# Altium integrated library Motorola Microcontroller 8-Bit.IntLib: 909 symbols (part 22 of 31)
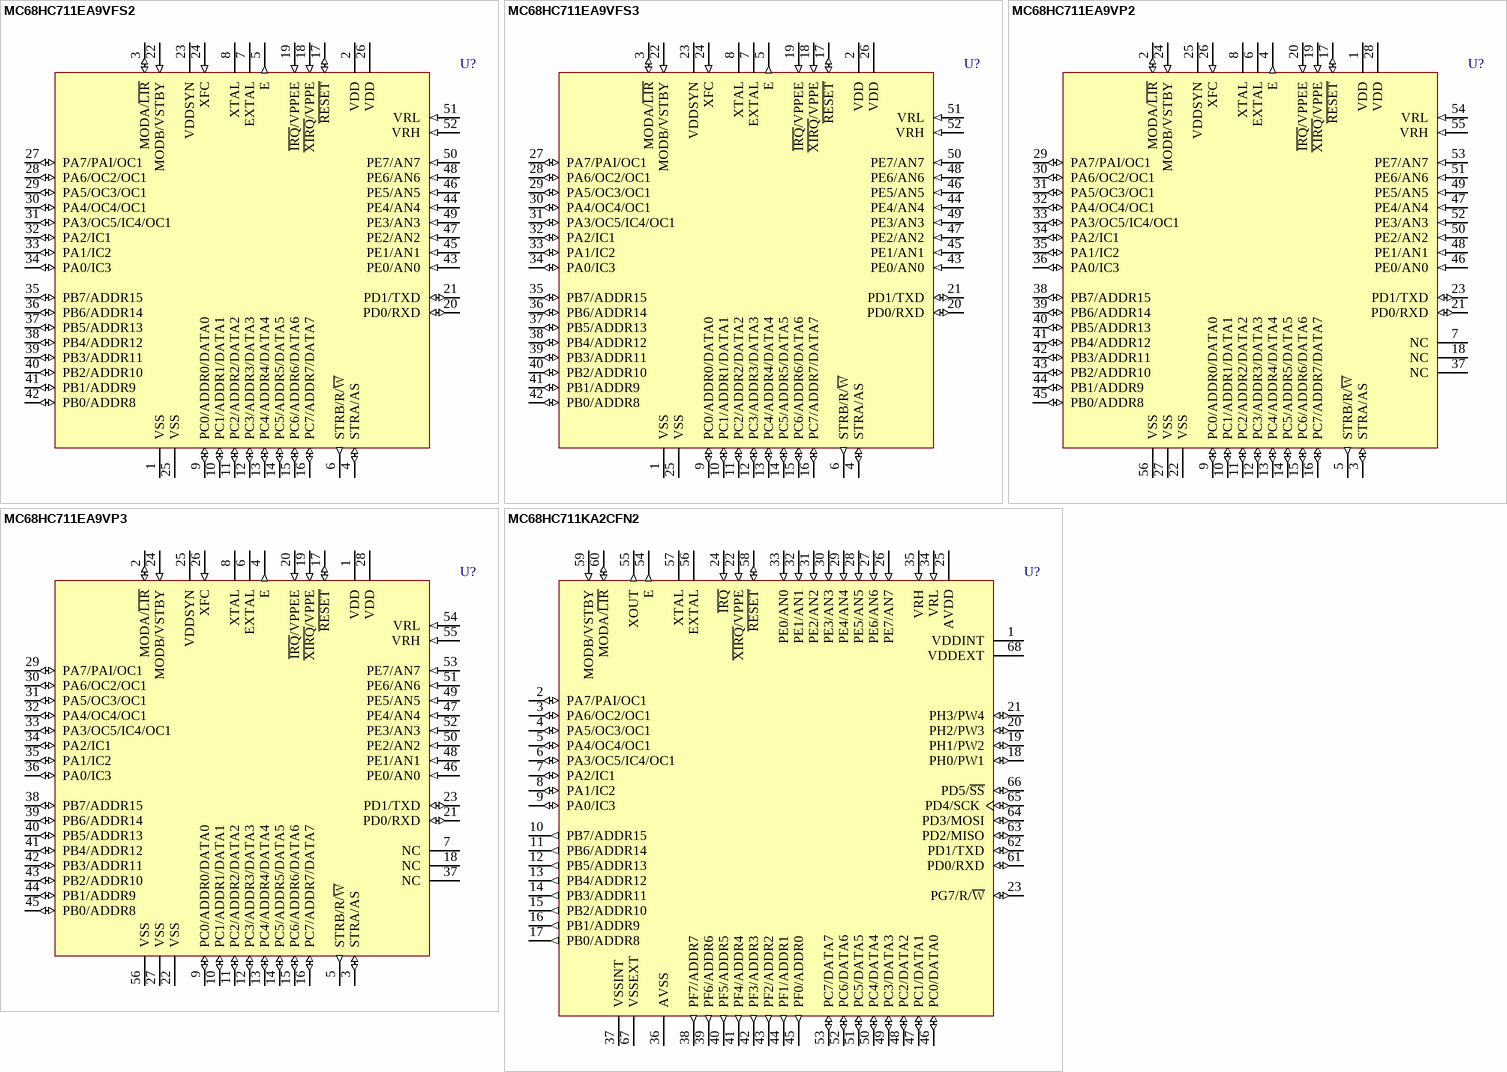
[diagram p134: symbols MC68HC711EA9VFS2 to MC68HC711KA2CFN2]

## MC68HC711EA9VP2
designator U?
8-Bit Microcontroller; Published: 17-Jan-2003; LatestRevisionDate: 06-Jun-2005; LatestRevisionNote: Stylized 3D Model Added.; DatasheetVersion: 10-Jan-1997; PackageVersion: rev4, Jul-2002; PackageReference: 859; Publisher: Altium Limited; PackageDescription: DIP; 56 Leads; Row Spacing 15.24 mm; Pitch 1.778 mm; ComponentLink1Description: Manufacturer Link; ComponentLink1URL: http://www.freescale.com/
footprint 859 (DIP; 56 Leads; Row Spacing 15.24 mm; Pitch 1.778 mm)
3D model 859-01 (DIP; 56 Leads; Row Spacing 15.24 mm; Pitch 1.778 mm)
pins: 1 VDD (power), 2 MODA/~{LIR} (io), 3 STRA/AS (io), 4 E (out), 5 STRB/R/~{W} (out), 6 EXTAL, 7 NC, 8 XTAL, 9 PC0/ADDR0/DATA0 (io), 10 PC1/ADDR1/DATA1 (io), 11 PC2/ADDR2/DATA2 (io), 12 PC3/ADDR3/DATA3 (io), 13 PC4/ADDR4/DATA4 (io), 14 PC5/ADDR5/DATA5 (io), 15 PC6/ADDR6/DATA6 (io), 16 PC7/ADDR7/DATA7 (io), 17 ~{RESET} (io), 18 NC, 19 ~{XIRQ}/VPPE (in), 20 ~{IRQ}/VPPEE (in), 21 PD0/RXD (io), 22 VSS (power), 23 PD1/TXD (io), 24 MODB/VSTBY (in), 25 VDDSYN (power), 26 XFC (in), 27 VSS (power), 28 VDD (power), 29 PA7/PAI/OC1 (io), 30 PA6/OC2/OC1 (io), 31 PA5/OC3/OC1 (io), 32 PA4/OC4/OC1 (io), 33 PA3/OC5/IC4/OC1 (io), 34 PA2/IC1 (io), 35 PA1/IC2 (io), 36 PA0/IC3 (io), 37 NC, 38 PB7/ADDR15 (io), 39 PB6/ADDR14 (io), 40 PB5/ADDR13 (io), 41 PB4/ADDR12 (io), 42 PB3/ADDR11 (io), 43 PB2/ADDR10 (io), 44 PB1/ADDR9 (io), 45 PB0/ADDR8 (io), 46 PE0/AN0 (in), 47 PE4/AN4 (in), 48 PE1/AN1 (in), 49 PE5/AN5 (in), 50 PE2/AN2 (in), 51 PE6/AN6 (in), 52 PE3/AN3 (in), 53 PE7/AN7 (in), 54 VRL (in), 55 VRH (in), 56 VSS (power)

## MC68HC711EA9VP3
designator U?
8-Bit Microcontroller; Published: 17-Jan-2003; LatestRevisionDate: 06-Jun-2005; LatestRevisionNote: Stylized 3D Model Added.; DatasheetVersion: 10-Jan-1997; PackageVersion: rev4, Jul-2002; PackageReference: 859; Publisher: Altium Limited; PackageDescription: DIP; 56 Leads; Row Spacing 15.24 mm; Pitch 1.778 mm; ComponentLink1Description: Manufacturer Link; ComponentLink1URL: http://www.freescale.com/
footprint 859 (DIP; 56 Leads; Row Spacing 15.24 mm; Pitch 1.778 mm)
3D model 859-01 (DIP; 56 Leads; Row Spacing 15.24 mm; Pitch 1.778 mm)
pins: 1 VDD (power), 2 MODA/~{LIR} (io), 3 STRA/AS (io), 4 E (out), 5 STRB/R/~{W} (out), 6 EXTAL, 7 NC, 8 XTAL, 9 PC0/ADDR0/DATA0 (io), 10 PC1/ADDR1/DATA1 (io), 11 PC2/ADDR2/DATA2 (io), 12 PC3/ADDR3/DATA3 (io), 13 PC4/ADDR4/DATA4 (io), 14 PC5/ADDR5/DATA5 (io), 15 PC6/ADDR6/DATA6 (io), 16 PC7/ADDR7/DATA7 (io), 17 ~{RESET} (io), 18 NC, 19 ~{XIRQ}/VPPE (in), 20 ~{IRQ}/VPPEE (in), 21 PD0/RXD (io), 22 VSS (power), 23 PD1/TXD (io), 24 MODB/VSTBY (in), 25 VDDSYN (power), 26 XFC (in), 27 VSS (power), 28 VDD (power), 29 PA7/PAI/OC1 (io), 30 PA6/OC2/OC1 (io), 31 PA5/OC3/OC1 (io), 32 PA4/OC4/OC1 (io), 33 PA3/OC5/IC4/OC1 (io), 34 PA2/IC1 (io), 35 PA1/IC2 (io), 36 PA0/IC3 (io), 37 NC, 38 PB7/ADDR15 (io), 39 PB6/ADDR14 (io), 40 PB5/ADDR13 (io), 41 PB4/ADDR12 (io), 42 PB3/ADDR11 (io), 43 PB2/ADDR10 (io), 44 PB1/ADDR9 (io), 45 PB0/ADDR8 (io), 46 PE0/AN0 (in), 47 PE4/AN4 (in), 48 PE1/AN1 (in), 49 PE5/AN5 (in), 50 PE2/AN2 (in), 51 PE6/AN6 (in), 52 PE3/AN3 (in), 53 PE7/AN7 (in), 54 VRL (in), 55 VRH (in), 56 VSS (power)

## MC68HC711KA2CFN2
designator U?
8-Bit Microcontroller; Published: 17-Jan-2003; LatestRevisionDate: 13-Apr-2006; LatestRevisionNote: IPC-7351 Footprint Added.; DatasheetVersion: 1996; PackageVersion: 2001; PackageReference: 779-02; Publisher: Altium Limited; PackageDescription: 68-Pin Leaded Chip Carrier 1.27 mm Pitch; ComponentLink1Description: Manufacturer Link; ComponentLink1URL: http://www.freescale.com/
footprint 779-02_N (Leaded Chip Carrier, 68-Leads, Body 24.2x24.2mm, Pitch 1.27mm, IPC Medium Density)
footprint 779-02_L (Leaded Chip Carrier, 68-Leads, Body 24.2x24.2mm, Pitch 1.27mm, IPC High Density)
footprint 779-02_M (Leaded Chip Carrier, 68-Leads, Body 24.2x24.2mm, Pitch 1.27mm, IPC Low Density)
3D model MC68HC711-779-02 (68-Pin Leaded Chip Carrier 1.27 mm Pitch)
pins: 1 VDDINT (power), 2 PA7/PAI/OC1 (io), 3 PA6/OC2/OC1 (io), 4 PA5/OC3/OC1 (io), 5 PA4/OC4/OC1 (io), 6 PA3/OC5/IC4/OC1 (io), 7 PA2/IC1 (io), 8 PA1/IC2 (io), 9 PA0/IC3 (io), 10 PB7/ADDR15 (out), 11 PB6/ADDR14 (out), 12 PB5/ADDR13 (out), 13 PB4/ADDR12 (out), 14 PB3/ADDR11 (out), 15 PB2/ADDR10 (out), 16 PB1/ADDR9 (out), 17 PB0/ADDR8 (out), 18 PH0/PW1 (io), 19 PH1/PW2 (io), 20 PH2/PW3 (io), 21 PH3/PW4 (io), 22 ~{XIRQ}/VPPE (in), 23 PG7/R/~{W} (io), 24 ~{IRQ} (in), 25 AVDD (power), 26 PE7/AN7 (in), 27 PE6/AN6 (in), 28 PE5/AN5 (in), 29 PE4/AN4 (in), 30 PE3/AN3 (in), 31 PE2/AN2 (in), 32 PE1/AN1 (in), 33 PE0/AN0 (in), 34 VRL (in), 35 VRH (in), 36 AVSS (power), 37 VSSINT (power), 38 PF7/ADDR7 (out), 39 PF6/ADDR6 (out), 40 PF5/ADDR5 (out), 41 PF4/ADDR4 (out), 42 PF3/ADDR3 (out), 43 PF2/ADDR2 (out), 44 PF1/ADDR1 (out), 45 PF0/ADDR0 (out), 46 PC0/DATA0 (io), 47 PC1/DATA1 (io), 48 PC2/DATA2 (io), 49 PC3/DATA3 (io), 50 PC4/DATA4 (io), 51 PC5/DATA5 (io), 52 PC6/DATA6 (io), 53 PC7/DATA7 (io), 54 E (out), 55 XOUT (out), 56 EXTAL, 57 XTAL, 58 ~{RESET} (io), 59 MODB/VSTBY (in), 60 MODA/~{LIR} (io), 61 PD0/RXD (io), 62 PD1/TXD (io), 63 PD2/MISO (io), 64 PD3/MOSI (io), 65 PD4/SCK (io), 66 PD5/~{SS} (io), 67 VSSEXT (power), 68 VDDEXT (power)

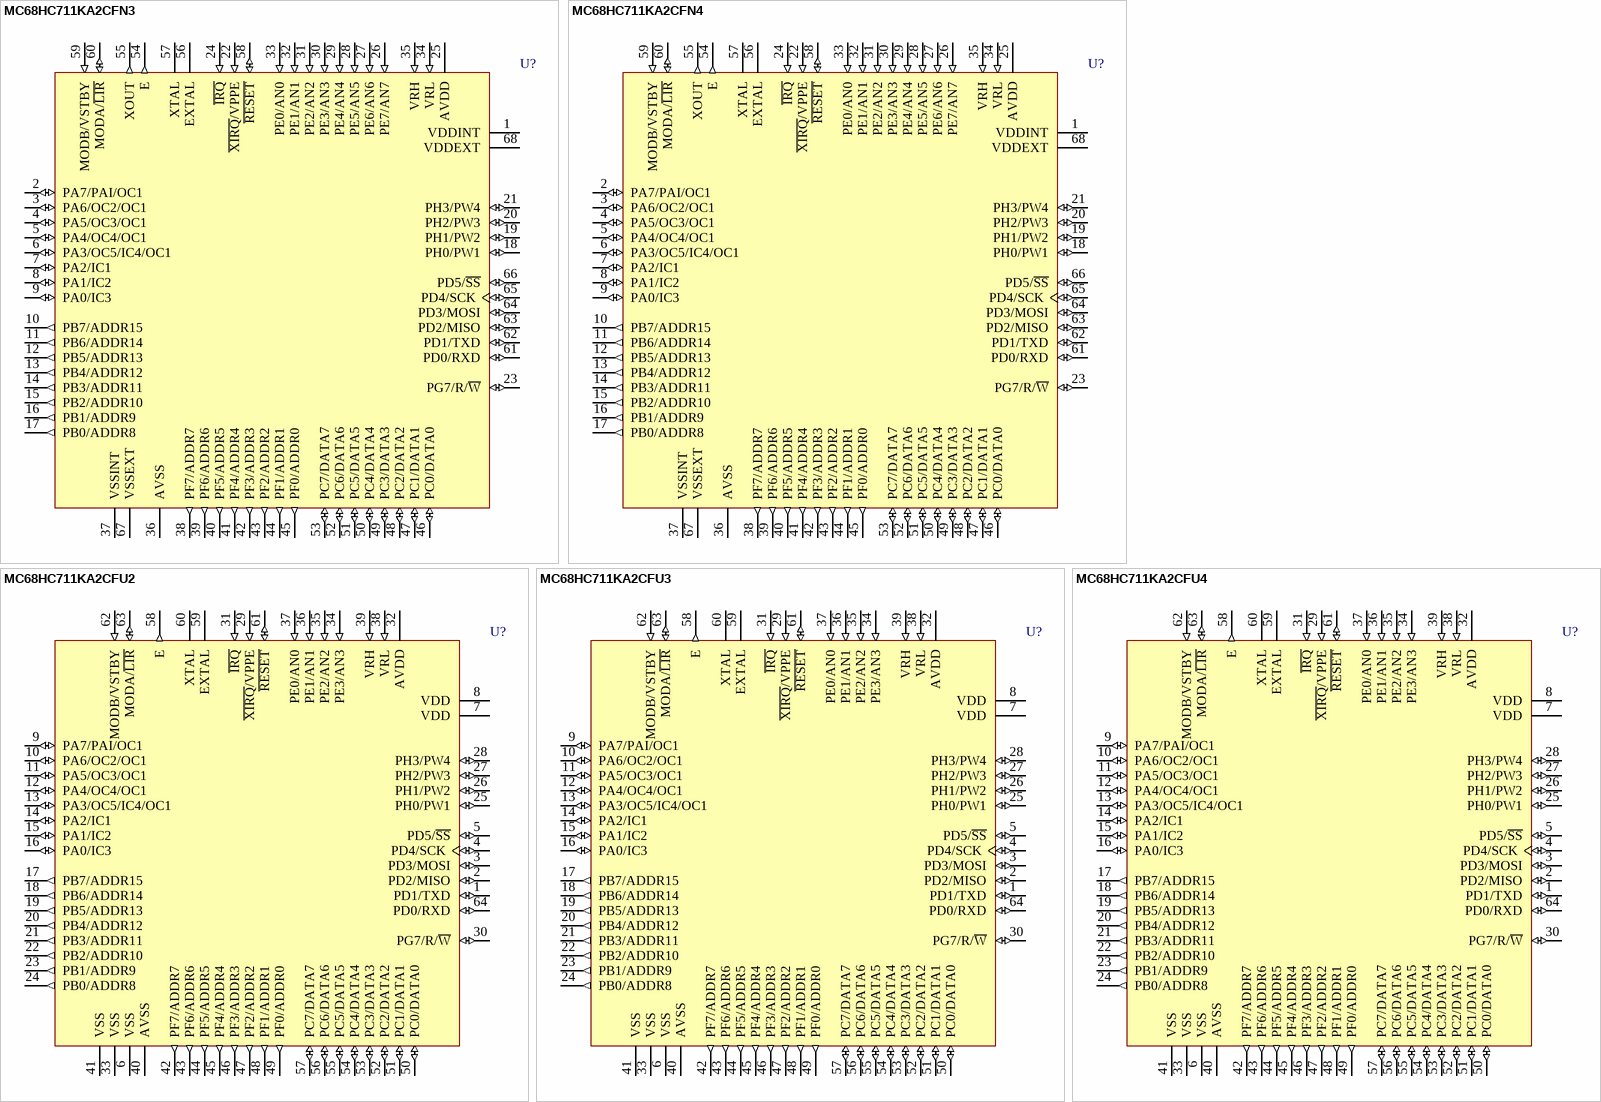
[diagram p80: symbols MC68HC711KA2CFN3 to MC68HC711KA2CFU4]

## MC68HC711KA2CFN3
designator U?
8-Bit Microcontroller; Published: 17-Jan-2003; LatestRevisionDate: 13-Apr-2006; LatestRevisionNote: IPC-7351 Footprint Added.; DatasheetVersion: 1996; PackageVersion: 2001; PackageReference: 779-02; Publisher: Altium Limited; PackageDescription: 68-Pin Leaded Chip Carrier 1.27 mm Pitch; ComponentLink1Description: Manufacturer Link; ComponentLink1URL: http://www.freescale.com/
footprint 779-02_N (Leaded Chip Carrier, 68-Leads, Body 24.2x24.2mm, Pitch 1.27mm, IPC Medium Density)
footprint 779-02_L (Leaded Chip Carrier, 68-Leads, Body 24.2x24.2mm, Pitch 1.27mm, IPC High Density)
footprint 779-02_M (Leaded Chip Carrier, 68-Leads, Body 24.2x24.2mm, Pitch 1.27mm, IPC Low Density)
3D model MC68HC711-779-02 (68-Pin Leaded Chip Carrier 1.27 mm Pitch)
pins: 1 VDDINT (power), 2 PA7/PAI/OC1 (io), 3 PA6/OC2/OC1 (io), 4 PA5/OC3/OC1 (io), 5 PA4/OC4/OC1 (io), 6 PA3/OC5/IC4/OC1 (io), 7 PA2/IC1 (io), 8 PA1/IC2 (io), 9 PA0/IC3 (io), 10 PB7/ADDR15 (out), 11 PB6/ADDR14 (out), 12 PB5/ADDR13 (out), 13 PB4/ADDR12 (out), 14 PB3/ADDR11 (out), 15 PB2/ADDR10 (out), 16 PB1/ADDR9 (out), 17 PB0/ADDR8 (out), 18 PH0/PW1 (io), 19 PH1/PW2 (io), 20 PH2/PW3 (io), 21 PH3/PW4 (io), 22 ~{XIRQ}/VPPE (in), 23 PG7/R/~{W} (io), 24 ~{IRQ} (in), 25 AVDD (power), 26 PE7/AN7 (in), 27 PE6/AN6 (in), 28 PE5/AN5 (in), 29 PE4/AN4 (in), 30 PE3/AN3 (in), 31 PE2/AN2 (in), 32 PE1/AN1 (in), 33 PE0/AN0 (in), 34 VRL (in), 35 VRH (in), 36 AVSS (power), 37 VSSINT (power), 38 PF7/ADDR7 (out), 39 PF6/ADDR6 (out), 40 PF5/ADDR5 (out), 41 PF4/ADDR4 (out), 42 PF3/ADDR3 (out), 43 PF2/ADDR2 (out), 44 PF1/ADDR1 (out), 45 PF0/ADDR0 (out), 46 PC0/DATA0 (io), 47 PC1/DATA1 (io), 48 PC2/DATA2 (io), 49 PC3/DATA3 (io), 50 PC4/DATA4 (io), 51 PC5/DATA5 (io), 52 PC6/DATA6 (io), 53 PC7/DATA7 (io), 54 E (out), 55 XOUT (out), 56 EXTAL, 57 XTAL, 58 ~{RESET} (io), 59 MODB/VSTBY (in), 60 MODA/~{LIR} (io), 61 PD0/RXD (io), 62 PD1/TXD (io), 63 PD2/MISO (io), 64 PD3/MOSI (io), 65 PD4/SCK (io), 66 PD5/~{SS} (io), 67 VSSEXT (power), 68 VDDEXT (power)

## MC68HC711KA2CFN4
designator U?
8-Bit Microcontroller; Published: 17-Jan-2003; LatestRevisionDate: 13-Apr-2006; LatestRevisionNote: IPC-7351 Footprint Added.; DatasheetVersion: 1996; PackageVersion: 2001; PackageReference: 779-02; Publisher: Altium Limited; PackageDescription: 68-Pin Leaded Chip Carrier 1.27 mm Pitch; ComponentLink1Description: Manufacturer Link; ComponentLink1URL: http://www.freescale.com/
footprint 779-02_N (Leaded Chip Carrier, 68-Leads, Body 24.2x24.2mm, Pitch 1.27mm, IPC Medium Density)
footprint 779-02_L (Leaded Chip Carrier, 68-Leads, Body 24.2x24.2mm, Pitch 1.27mm, IPC High Density)
footprint 779-02_M (Leaded Chip Carrier, 68-Leads, Body 24.2x24.2mm, Pitch 1.27mm, IPC Low Density)
3D model MC68HC711-779-02 (68-Pin Leaded Chip Carrier 1.27 mm Pitch)
pins: 1 VDDINT (power), 2 PA7/PAI/OC1 (io), 3 PA6/OC2/OC1 (io), 4 PA5/OC3/OC1 (io), 5 PA4/OC4/OC1 (io), 6 PA3/OC5/IC4/OC1 (io), 7 PA2/IC1 (io), 8 PA1/IC2 (io), 9 PA0/IC3 (io), 10 PB7/ADDR15 (out), 11 PB6/ADDR14 (out), 12 PB5/ADDR13 (out), 13 PB4/ADDR12 (out), 14 PB3/ADDR11 (out), 15 PB2/ADDR10 (out), 16 PB1/ADDR9 (out), 17 PB0/ADDR8 (out), 18 PH0/PW1 (io), 19 PH1/PW2 (io), 20 PH2/PW3 (io), 21 PH3/PW4 (io), 22 ~{XIRQ}/VPPE (in), 23 PG7/R/~{W} (io), 24 ~{IRQ} (in), 25 AVDD (power), 26 PE7/AN7 (in), 27 PE6/AN6 (in), 28 PE5/AN5 (in), 29 PE4/AN4 (in), 30 PE3/AN3 (in), 31 PE2/AN2 (in), 32 PE1/AN1 (in), 33 PE0/AN0 (in), 34 VRL (in), 35 VRH (in), 36 AVSS (power), 37 VSSINT (power), 38 PF7/ADDR7 (out), 39 PF6/ADDR6 (out), 40 PF5/ADDR5 (out), 41 PF4/ADDR4 (out), 42 PF3/ADDR3 (out), 43 PF2/ADDR2 (out), 44 PF1/ADDR1 (out), 45 PF0/ADDR0 (out), 46 PC0/DATA0 (io), 47 PC1/DATA1 (io), 48 PC2/DATA2 (io), 49 PC3/DATA3 (io), 50 PC4/DATA4 (io), 51 PC5/DATA5 (io), 52 PC6/DATA6 (io), 53 PC7/DATA7 (io), 54 E (out), 55 XOUT (out), 56 EXTAL, 57 XTAL, 58 ~{RESET} (io), 59 MODB/VSTBY (in), 60 MODA/~{LIR} (io), 61 PD0/RXD (io), 62 PD1/TXD (io), 63 PD2/MISO (io), 64 PD3/MOSI (io), 65 PD4/SCK (io), 66 PD5/~{SS} (io), 67 VSSEXT (power), 68 VDDEXT (power)

## MC68HC711KA2CFU2
designator U?
8-Bit Microcontroller; Published: 17-Jan-2003; LatestRevisionDate: 13-Apr-2006; LatestRevisionNote: IPC-7351 Footprint Added.; DatasheetVersion: 1996; PackageVersion: rev4, Jul-2002; PackageReference: 840C; Publisher: Altium Limited; PackageDescription: 64-Pin Quad Flat Pack 0.8 mm Pitch; ComponentLink1Description: Manufacturer Link; ComponentLink1URL: http://www.freescale.com/
footprint 840C_N (QFP, 64-Leads, Body 14x14mm, Pitch 0.8mm, IPC Medium Density)
footprint 840C_L (QFP, 64-Leads, Body 14x14mm, Pitch 0.8mm, IPC High Density)
footprint 840C_M (QFP, 64-Leads, Body 14x14mm, Pitch 0.8mm, IPC Low Density)
3D model MC68HC711-840C (64-Pin Quad Flat Pack 0.8 mm Pitch)
pins: 1 PD1/TXD (io), 2 PD2/MISO (io), 3 PD3/MOSI (io), 4 PD4/SCK (io), 5 PD5/~{SS} (io), 6 VSS (power), 7 VDD (power), 8 VDD (power), 9 PA7/PAI/OC1 (io), 10 PA6/OC2/OC1 (io), 11 PA5/OC3/OC1 (io), 12 PA4/OC4/OC1 (io), 13 PA3/OC5/IC4/OC1 (io), 14 PA2/IC1 (io), 15 PA1/IC2 (io), 16 PA0/IC3 (io), 17 PB7/ADDR15 (out), 18 PB6/ADDR14 (out), 19 PB5/ADDR13 (out), 20 PB4/ADDR12 (out), 21 PB3/ADDR11 (out), 22 PB2/ADDR10 (out), 23 PB1/ADDR9 (out), 24 PB0/ADDR8 (out), 25 PH0/PW1 (io), 26 PH1/PW2 (io), 27 PH2/PW3 (io), 28 PH3/PW4 (io), 29 ~{XIRQ}/VPPE (in), 30 PG7/R/~{W} (io), 31 ~{IRQ} (in), 32 AVDD (power), 33 VSS (power), 34 PE3/AN3 (in), 35 PE2/AN2 (in), 36 PE1/AN1 (in), 37 PE0/AN0 (in), 38 VRL (in), 39 VRH (in), 40 AVSS (power), 41 VSS (power), 42 PF7/ADDR7 (out), 43 PF6/ADDR6 (out), 44 PF5/ADDR5 (out), 45 PF4/ADDR4 (out), 46 PF3/ADDR3 (out), 47 PF2/ADDR2 (out), 48 PF1/ADDR1 (out), 49 PF0/ADDR0 (out), 50 PC0/DATA0 (io), 51 PC1/DATA1 (io), 52 PC2/DATA2 (io), 53 PC3/DATA3 (io), 54 PC4/DATA4 (io), 55 PC5/DATA5 (io), 56 PC6/DATA6 (io), 57 PC7/DATA7 (io), 58 E (out), 59 EXTAL, 60 XTAL, 61 ~{RESET} (io), 62 MODB/VSTBY (in), 63 MODA/~{LIR} (io), 64 PD0/RXD (io)

## MC68HC711KA2CFU3
designator U?
8-Bit Microcontroller; Published: 17-Jan-2003; LatestRevisionDate: 13-Apr-2006; LatestRevisionNote: IPC-7351 Footprint Added.; DatasheetVersion: 1996; PackageVersion: rev4, Jul-2002; PackageReference: 840C; Publisher: Altium Limited; PackageDescription: 64-Pin Quad Flat Pack 0.8 mm Pitch; ComponentLink1Description: Manufacturer Link; ComponentLink1URL: http://www.freescale.com/
footprint 840C_N (QFP, 64-Leads, Body 14x14mm, Pitch 0.8mm, IPC Medium Density)
footprint 840C_L (QFP, 64-Leads, Body 14x14mm, Pitch 0.8mm, IPC High Density)
footprint 840C_M (QFP, 64-Leads, Body 14x14mm, Pitch 0.8mm, IPC Low Density)
3D model MC68HC711-840C (64-Pin Quad Flat Pack 0.8 mm Pitch)
pins: 1 PD1/TXD (io), 2 PD2/MISO (io), 3 PD3/MOSI (io), 4 PD4/SCK (io), 5 PD5/~{SS} (io), 6 VSS (power), 7 VDD (power), 8 VDD (power), 9 PA7/PAI/OC1 (io), 10 PA6/OC2/OC1 (io), 11 PA5/OC3/OC1 (io), 12 PA4/OC4/OC1 (io), 13 PA3/OC5/IC4/OC1 (io), 14 PA2/IC1 (io), 15 PA1/IC2 (io), 16 PA0/IC3 (io), 17 PB7/ADDR15 (out), 18 PB6/ADDR14 (out), 19 PB5/ADDR13 (out), 20 PB4/ADDR12 (out), 21 PB3/ADDR11 (out), 22 PB2/ADDR10 (out), 23 PB1/ADDR9 (out), 24 PB0/ADDR8 (out), 25 PH0/PW1 (io), 26 PH1/PW2 (io), 27 PH2/PW3 (io), 28 PH3/PW4 (io), 29 ~{XIRQ}/VPPE (in), 30 PG7/R/~{W} (io), 31 ~{IRQ} (in), 32 AVDD (power), 33 VSS (power), 34 PE3/AN3 (in), 35 PE2/AN2 (in), 36 PE1/AN1 (in), 37 PE0/AN0 (in), 38 VRL (in), 39 VRH (in), 40 AVSS (power), 41 VSS (power), 42 PF7/ADDR7 (out), 43 PF6/ADDR6 (out), 44 PF5/ADDR5 (out), 45 PF4/ADDR4 (out), 46 PF3/ADDR3 (out), 47 PF2/ADDR2 (out), 48 PF1/ADDR1 (out), 49 PF0/ADDR0 (out), 50 PC0/DATA0 (io), 51 PC1/DATA1 (io), 52 PC2/DATA2 (io), 53 PC3/DATA3 (io), 54 PC4/DATA4 (io), 55 PC5/DATA5 (io), 56 PC6/DATA6 (io), 57 PC7/DATA7 (io), 58 E (out), 59 EXTAL, 60 XTAL, 61 ~{RESET} (io), 62 MODB/VSTBY (in), 63 MODA/~{LIR} (io), 64 PD0/RXD (io)

## MC68HC711KA2CFU4
designator U?
8-Bit Microcontroller; Published: 17-Jan-2003; LatestRevisionDate: 13-Apr-2006; LatestRevisionNote: IPC-7351 Footprint Added.; DatasheetVersion: 1996; PackageVersion: rev4, Jul-2002; PackageReference: 840C; Publisher: Altium Limited; PackageDescription: 64-Pin Quad Flat Pack 0.8 mm Pitch; ComponentLink1Description: Manufacturer Link; ComponentLink1URL: http://www.freescale.com/
footprint 840C_N (QFP, 64-Leads, Body 14x14mm, Pitch 0.8mm, IPC Medium Density)
footprint 840C_L (QFP, 64-Leads, Body 14x14mm, Pitch 0.8mm, IPC High Density)
footprint 840C_M (QFP, 64-Leads, Body 14x14mm, Pitch 0.8mm, IPC Low Density)
3D model MC68HC711-840C (64-Pin Quad Flat Pack 0.8 mm Pitch)
pins: 1 PD1/TXD (io), 2 PD2/MISO (io), 3 PD3/MOSI (io), 4 PD4/SCK (io), 5 PD5/~{SS} (io), 6 VSS (power), 7 VDD (power), 8 VDD (power), 9 PA7/PAI/OC1 (io), 10 PA6/OC2/OC1 (io), 11 PA5/OC3/OC1 (io), 12 PA4/OC4/OC1 (io), 13 PA3/OC5/IC4/OC1 (io), 14 PA2/IC1 (io), 15 PA1/IC2 (io), 16 PA0/IC3 (io), 17 PB7/ADDR15 (out), 18 PB6/ADDR14 (out), 19 PB5/ADDR13 (out), 20 PB4/ADDR12 (out), 21 PB3/ADDR11 (out), 22 PB2/ADDR10 (out), 23 PB1/ADDR9 (out), 24 PB0/ADDR8 (out), 25 PH0/PW1 (io), 26 PH1/PW2 (io), 27 PH2/PW3 (io), 28 PH3/PW4 (io), 29 ~{XIRQ}/VPPE (in), 30 PG7/R/~{W} (io), 31 ~{IRQ} (in), 32 AVDD (power), 33 VSS (power), 34 PE3/AN3 (in), 35 PE2/AN2 (in), 36 PE1/AN1 (in), 37 PE0/AN0 (in), 38 VRL (in), 39 VRH (in), 40 AVSS (power), 41 VSS (power), 42 PF7/ADDR7 (out), 43 PF6/ADDR6 (out), 44 PF5/ADDR5 (out), 45 PF4/ADDR4 (out), 46 PF3/ADDR3 (out), 47 PF2/ADDR2 (out), 48 PF1/ADDR1 (out), 49 PF0/ADDR0 (out), 50 PC0/DATA0 (io), 51 PC1/DATA1 (io), 52 PC2/DATA2 (io), 53 PC3/DATA3 (io), 54 PC4/DATA4 (io), 55 PC5/DATA5 (io), 56 PC6/DATA6 (io), 57 PC7/DATA7 (io), 58 E (out), 59 EXTAL, 60 XTAL, 61 ~{RESET} (io), 62 MODB/VSTBY (in), 63 MODA/~{LIR} (io), 64 PD0/RXD (io)

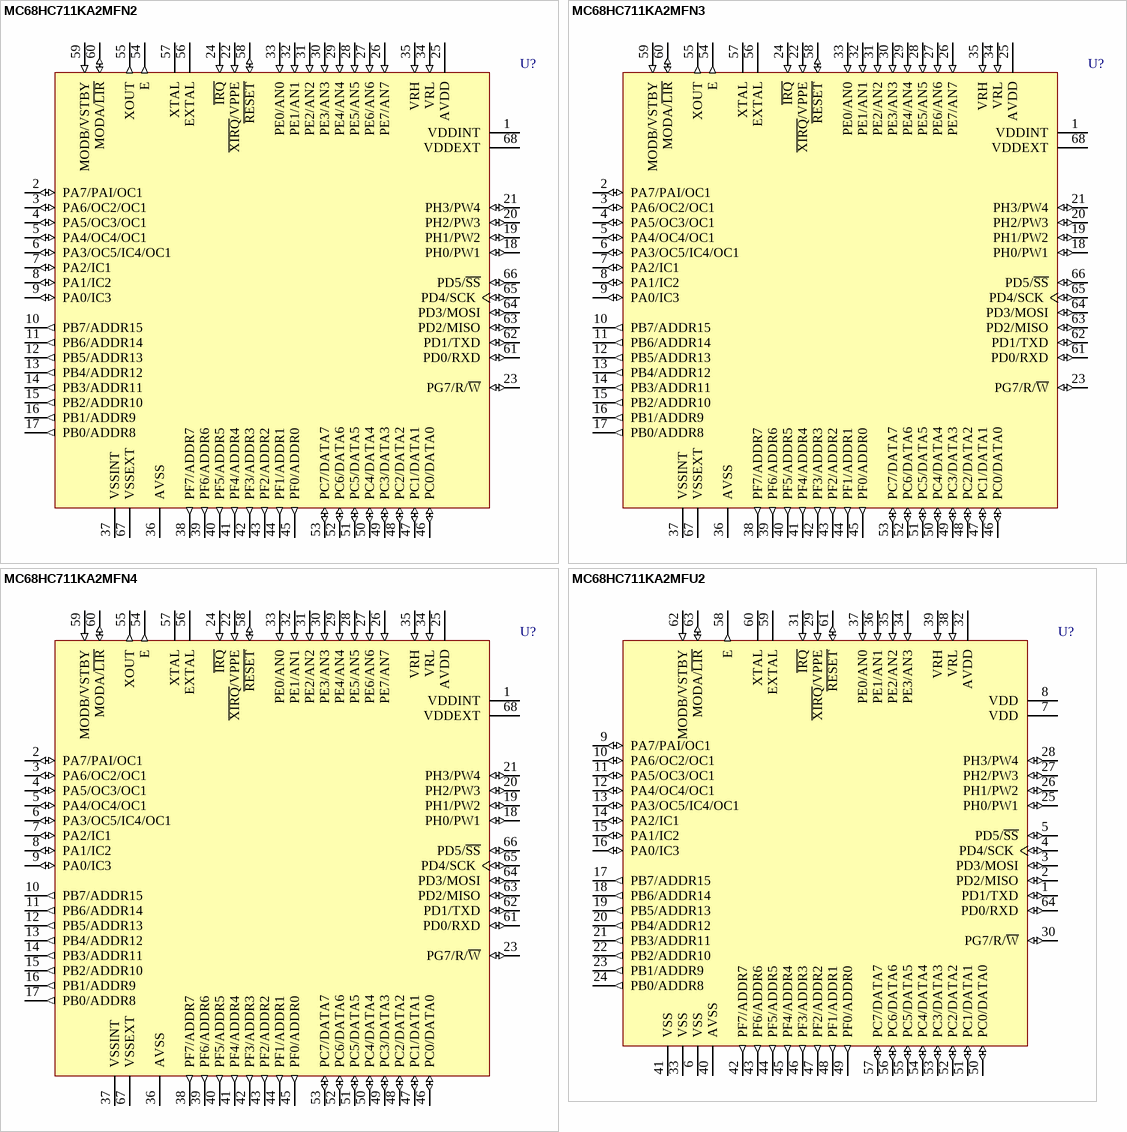
[diagram p81: symbols MC68HC711KA2MFN2 to MC68HC711KA2MFU2]

## MC68HC711KA2MFN2
designator U?
8-Bit Microcontroller; Published: 17-Jan-2003; LatestRevisionDate: 13-Apr-2006; LatestRevisionNote: IPC-7351 Footprint Added.; DatasheetVersion: 1996; PackageVersion: 2001; PackageReference: 779-02; Publisher: Altium Limited; PackageDescription: 68-Pin Leaded Chip Carrier 1.27 mm Pitch; ComponentLink1Description: Manufacturer Link; ComponentLink1URL: http://www.freescale.com/
footprint 779-02_N (Leaded Chip Carrier, 68-Leads, Body 24.2x24.2mm, Pitch 1.27mm, IPC Medium Density)
footprint 779-02_L (Leaded Chip Carrier, 68-Leads, Body 24.2x24.2mm, Pitch 1.27mm, IPC High Density)
footprint 779-02_M (Leaded Chip Carrier, 68-Leads, Body 24.2x24.2mm, Pitch 1.27mm, IPC Low Density)
3D model MC68HC711-779-02 (68-Pin Leaded Chip Carrier 1.27 mm Pitch)
pins: 1 VDDINT (power), 2 PA7/PAI/OC1 (io), 3 PA6/OC2/OC1 (io), 4 PA5/OC3/OC1 (io), 5 PA4/OC4/OC1 (io), 6 PA3/OC5/IC4/OC1 (io), 7 PA2/IC1 (io), 8 PA1/IC2 (io), 9 PA0/IC3 (io), 10 PB7/ADDR15 (out), 11 PB6/ADDR14 (out), 12 PB5/ADDR13 (out), 13 PB4/ADDR12 (out), 14 PB3/ADDR11 (out), 15 PB2/ADDR10 (out), 16 PB1/ADDR9 (out), 17 PB0/ADDR8 (out), 18 PH0/PW1 (io), 19 PH1/PW2 (io), 20 PH2/PW3 (io), 21 PH3/PW4 (io), 22 ~{XIRQ}/VPPE (in), 23 PG7/R/~{W} (io), 24 ~{IRQ} (in), 25 AVDD (power), 26 PE7/AN7 (in), 27 PE6/AN6 (in), 28 PE5/AN5 (in), 29 PE4/AN4 (in), 30 PE3/AN3 (in), 31 PE2/AN2 (in), 32 PE1/AN1 (in), 33 PE0/AN0 (in), 34 VRL (in), 35 VRH (in), 36 AVSS (power), 37 VSSINT (power), 38 PF7/ADDR7 (out), 39 PF6/ADDR6 (out), 40 PF5/ADDR5 (out), 41 PF4/ADDR4 (out), 42 PF3/ADDR3 (out), 43 PF2/ADDR2 (out), 44 PF1/ADDR1 (out), 45 PF0/ADDR0 (out), 46 PC0/DATA0 (io), 47 PC1/DATA1 (io), 48 PC2/DATA2 (io), 49 PC3/DATA3 (io), 50 PC4/DATA4 (io), 51 PC5/DATA5 (io), 52 PC6/DATA6 (io), 53 PC7/DATA7 (io), 54 E (out), 55 XOUT (out), 56 EXTAL, 57 XTAL, 58 ~{RESET} (io), 59 MODB/VSTBY (in), 60 MODA/~{LIR} (io), 61 PD0/RXD (io), 62 PD1/TXD (io), 63 PD2/MISO (io), 64 PD3/MOSI (io), 65 PD4/SCK (io), 66 PD5/~{SS} (io), 67 VSSEXT (power), 68 VDDEXT (power)

## MC68HC711KA2MFN3
designator U?
8-Bit Microcontroller; Published: 17-Jan-2003; LatestRevisionDate: 13-Apr-2006; LatestRevisionNote: IPC-7351 Footprint Added.; DatasheetVersion: 1996; PackageVersion: 2001; PackageReference: 779-02; Publisher: Altium Limited; PackageDescription: 68-Pin Leaded Chip Carrier 1.27 mm Pitch; ComponentLink1Description: Manufacturer Link; ComponentLink1URL: http://www.freescale.com/
footprint 779-02_N (Leaded Chip Carrier, 68-Leads, Body 24.2x24.2mm, Pitch 1.27mm, IPC Medium Density)
footprint 779-02_L (Leaded Chip Carrier, 68-Leads, Body 24.2x24.2mm, Pitch 1.27mm, IPC High Density)
footprint 779-02_M (Leaded Chip Carrier, 68-Leads, Body 24.2x24.2mm, Pitch 1.27mm, IPC Low Density)
3D model MC68HC711-779-02 (68-Pin Leaded Chip Carrier 1.27 mm Pitch)
pins: 1 VDDINT (power), 2 PA7/PAI/OC1 (io), 3 PA6/OC2/OC1 (io), 4 PA5/OC3/OC1 (io), 5 PA4/OC4/OC1 (io), 6 PA3/OC5/IC4/OC1 (io), 7 PA2/IC1 (io), 8 PA1/IC2 (io), 9 PA0/IC3 (io), 10 PB7/ADDR15 (out), 11 PB6/ADDR14 (out), 12 PB5/ADDR13 (out), 13 PB4/ADDR12 (out), 14 PB3/ADDR11 (out), 15 PB2/ADDR10 (out), 16 PB1/ADDR9 (out), 17 PB0/ADDR8 (out), 18 PH0/PW1 (io), 19 PH1/PW2 (io), 20 PH2/PW3 (io), 21 PH3/PW4 (io), 22 ~{XIRQ}/VPPE (in), 23 PG7/R/~{W} (io), 24 ~{IRQ} (in), 25 AVDD (power), 26 PE7/AN7 (in), 27 PE6/AN6 (in), 28 PE5/AN5 (in), 29 PE4/AN4 (in), 30 PE3/AN3 (in), 31 PE2/AN2 (in), 32 PE1/AN1 (in), 33 PE0/AN0 (in), 34 VRL (in), 35 VRH (in), 36 AVSS (power), 37 VSSINT (power), 38 PF7/ADDR7 (out), 39 PF6/ADDR6 (out), 40 PF5/ADDR5 (out), 41 PF4/ADDR4 (out), 42 PF3/ADDR3 (out), 43 PF2/ADDR2 (out), 44 PF1/ADDR1 (out), 45 PF0/ADDR0 (out), 46 PC0/DATA0 (io), 47 PC1/DATA1 (io), 48 PC2/DATA2 (io), 49 PC3/DATA3 (io), 50 PC4/DATA4 (io), 51 PC5/DATA5 (io), 52 PC6/DATA6 (io), 53 PC7/DATA7 (io), 54 E (out), 55 XOUT (out), 56 EXTAL, 57 XTAL, 58 ~{RESET} (io), 59 MODB/VSTBY (in), 60 MODA/~{LIR} (io), 61 PD0/RXD (io), 62 PD1/TXD (io), 63 PD2/MISO (io), 64 PD3/MOSI (io), 65 PD4/SCK (io), 66 PD5/~{SS} (io), 67 VSSEXT (power), 68 VDDEXT (power)

## MC68HC711KA2MFN4
designator U?
8-Bit Microcontroller; Published: 17-Jan-2003; LatestRevisionDate: 13-Apr-2006; LatestRevisionNote: IPC-7351 Footprint Added.; DatasheetVersion: 1996; PackageVersion: 2001; PackageReference: 779-02; Publisher: Altium Limited; PackageDescription: 68-Pin Leaded Chip Carrier 1.27 mm Pitch; ComponentLink1Description: Manufacturer Link; ComponentLink1URL: http://www.freescale.com/
footprint 779-02_N (Leaded Chip Carrier, 68-Leads, Body 24.2x24.2mm, Pitch 1.27mm, IPC Medium Density)
footprint 779-02_L (Leaded Chip Carrier, 68-Leads, Body 24.2x24.2mm, Pitch 1.27mm, IPC High Density)
footprint 779-02_M (Leaded Chip Carrier, 68-Leads, Body 24.2x24.2mm, Pitch 1.27mm, IPC Low Density)
3D model MC68HC711-779-02 (68-Pin Leaded Chip Carrier 1.27 mm Pitch)
pins: 1 VDDINT (power), 2 PA7/PAI/OC1 (io), 3 PA6/OC2/OC1 (io), 4 PA5/OC3/OC1 (io), 5 PA4/OC4/OC1 (io), 6 PA3/OC5/IC4/OC1 (io), 7 PA2/IC1 (io), 8 PA1/IC2 (io), 9 PA0/IC3 (io), 10 PB7/ADDR15 (out), 11 PB6/ADDR14 (out), 12 PB5/ADDR13 (out), 13 PB4/ADDR12 (out), 14 PB3/ADDR11 (out), 15 PB2/ADDR10 (out), 16 PB1/ADDR9 (out), 17 PB0/ADDR8 (out), 18 PH0/PW1 (io), 19 PH1/PW2 (io), 20 PH2/PW3 (io), 21 PH3/PW4 (io), 22 ~{XIRQ}/VPPE (in), 23 PG7/R/~{W} (io), 24 ~{IRQ} (in), 25 AVDD (power), 26 PE7/AN7 (in), 27 PE6/AN6 (in), 28 PE5/AN5 (in), 29 PE4/AN4 (in), 30 PE3/AN3 (in), 31 PE2/AN2 (in), 32 PE1/AN1 (in), 33 PE0/AN0 (in), 34 VRL (in), 35 VRH (in), 36 AVSS (power), 37 VSSINT (power), 38 PF7/ADDR7 (out), 39 PF6/ADDR6 (out), 40 PF5/ADDR5 (out), 41 PF4/ADDR4 (out), 42 PF3/ADDR3 (out), 43 PF2/ADDR2 (out), 44 PF1/ADDR1 (out), 45 PF0/ADDR0 (out), 46 PC0/DATA0 (io), 47 PC1/DATA1 (io), 48 PC2/DATA2 (io), 49 PC3/DATA3 (io), 50 PC4/DATA4 (io), 51 PC5/DATA5 (io), 52 PC6/DATA6 (io), 53 PC7/DATA7 (io), 54 E (out), 55 XOUT (out), 56 EXTAL, 57 XTAL, 58 ~{RESET} (io), 59 MODB/VSTBY (in), 60 MODA/~{LIR} (io), 61 PD0/RXD (io), 62 PD1/TXD (io), 63 PD2/MISO (io), 64 PD3/MOSI (io), 65 PD4/SCK (io), 66 PD5/~{SS} (io), 67 VSSEXT (power), 68 VDDEXT (power)

## MC68HC711KA2MFU2
designator U?
8-Bit Microcontroller; Published: 17-Jan-2003; LatestRevisionDate: 13-Apr-2006; LatestRevisionNote: IPC-7351 Footprint Added.; DatasheetVersion: 1996; PackageVersion: rev4, Jul-2002; PackageReference: 840C; Publisher: Altium Limited; PackageDescription: 64-Pin Quad Flat Pack 0.8 mm Pitch; ComponentLink1Description: Manufacturer Link; ComponentLink1URL: http://www.freescale.com/
footprint 840C_N (QFP, 64-Leads, Body 14x14mm, Pitch 0.8mm, IPC Medium Density)
footprint 840C_L (QFP, 64-Leads, Body 14x14mm, Pitch 0.8mm, IPC High Density)
footprint 840C_M (QFP, 64-Leads, Body 14x14mm, Pitch 0.8mm, IPC Low Density)
3D model MC68HC711-840C (64-Pin Quad Flat Pack 0.8 mm Pitch)
pins: 1 PD1/TXD (io), 2 PD2/MISO (io), 3 PD3/MOSI (io), 4 PD4/SCK (io), 5 PD5/~{SS} (io), 6 VSS (power), 7 VDD (power), 8 VDD (power), 9 PA7/PAI/OC1 (io), 10 PA6/OC2/OC1 (io), 11 PA5/OC3/OC1 (io), 12 PA4/OC4/OC1 (io), 13 PA3/OC5/IC4/OC1 (io), 14 PA2/IC1 (io), 15 PA1/IC2 (io), 16 PA0/IC3 (io), 17 PB7/ADDR15 (out), 18 PB6/ADDR14 (out), 19 PB5/ADDR13 (out), 20 PB4/ADDR12 (out), 21 PB3/ADDR11 (out), 22 PB2/ADDR10 (out), 23 PB1/ADDR9 (out), 24 PB0/ADDR8 (out), 25 PH0/PW1 (io), 26 PH1/PW2 (io), 27 PH2/PW3 (io), 28 PH3/PW4 (io), 29 ~{XIRQ}/VPPE (in), 30 PG7/R/~{W} (io), 31 ~{IRQ} (in), 32 AVDD (power), 33 VSS (power), 34 PE3/AN3 (in), 35 PE2/AN2 (in), 36 PE1/AN1 (in), 37 PE0/AN0 (in), 38 VRL (in), 39 VRH (in), 40 AVSS (power), 41 VSS (power), 42 PF7/ADDR7 (out), 43 PF6/ADDR6 (out), 44 PF5/ADDR5 (out), 45 PF4/ADDR4 (out), 46 PF3/ADDR3 (out), 47 PF2/ADDR2 (out), 48 PF1/ADDR1 (out), 49 PF0/ADDR0 (out), 50 PC0/DATA0 (io), 51 PC1/DATA1 (io), 52 PC2/DATA2 (io), 53 PC3/DATA3 (io), 54 PC4/DATA4 (io), 55 PC5/DATA5 (io), 56 PC6/DATA6 (io), 57 PC7/DATA7 (io), 58 E (out), 59 EXTAL, 60 XTAL, 61 ~{RESET} (io), 62 MODB/VSTBY (in), 63 MODA/~{LIR} (io), 64 PD0/RXD (io)

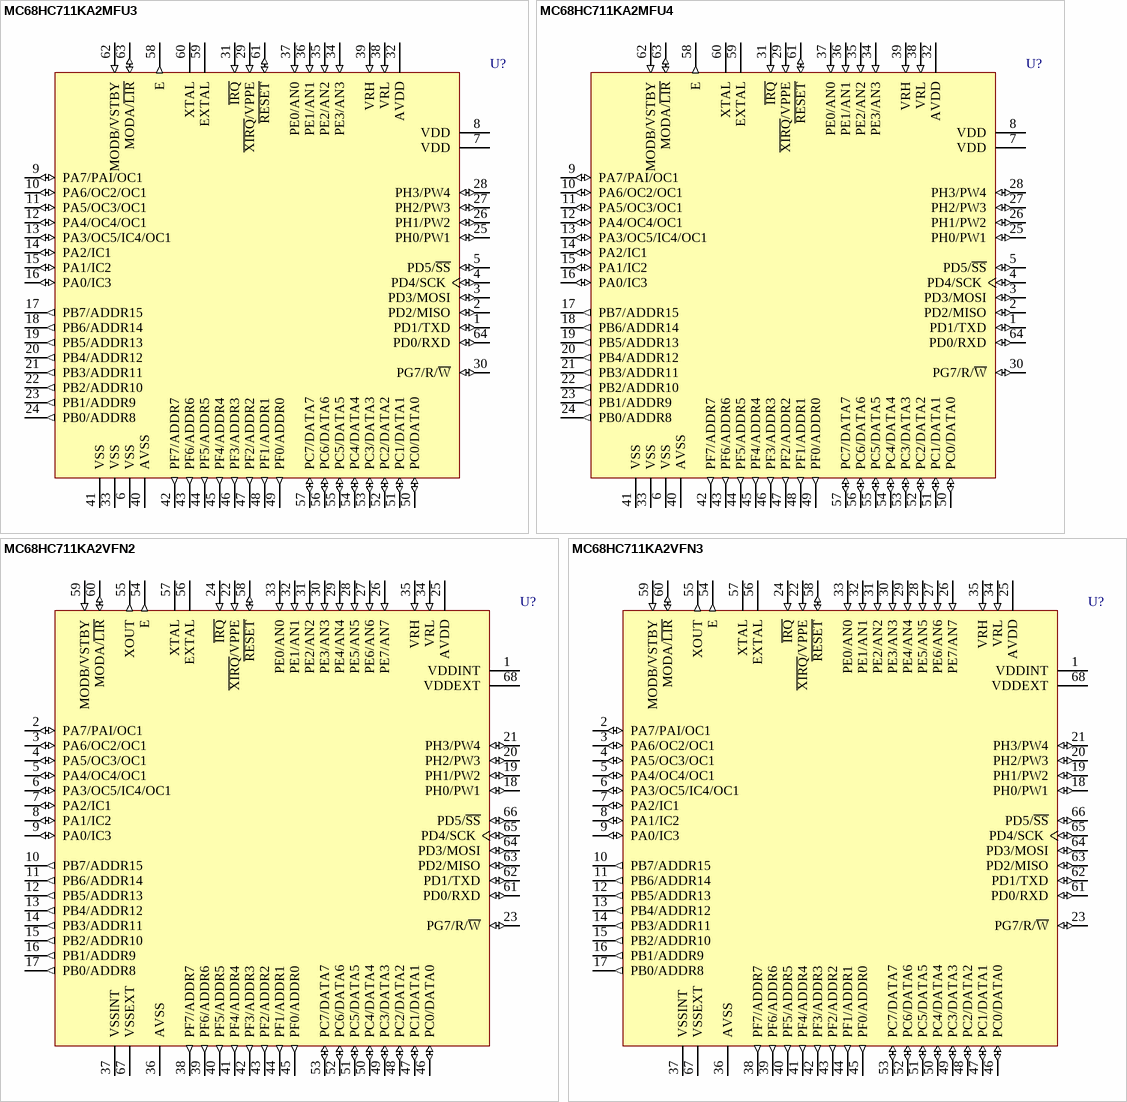
[diagram p82: symbols MC68HC711KA2MFU3 to MC68HC711KA2VFN3]

## MC68HC711KA2MFU3
designator U?
8-Bit Microcontroller; Published: 17-Jan-2003; LatestRevisionDate: 13-Apr-2006; LatestRevisionNote: IPC-7351 Footprint Added.; DatasheetVersion: 1996; PackageVersion: rev4, Jul-2002; PackageReference: 840C; Publisher: Altium Limited; PackageDescription: 64-Pin Quad Flat Pack 0.8 mm Pitch; ComponentLink1Description: Manufacturer Link; ComponentLink1URL: http://www.freescale.com/
footprint 840C_N (QFP, 64-Leads, Body 14x14mm, Pitch 0.8mm, IPC Medium Density)
footprint 840C_L (QFP, 64-Leads, Body 14x14mm, Pitch 0.8mm, IPC High Density)
footprint 840C_M (QFP, 64-Leads, Body 14x14mm, Pitch 0.8mm, IPC Low Density)
3D model MC68HC711-840C (64-Pin Quad Flat Pack 0.8 mm Pitch)
pins: 1 PD1/TXD (io), 2 PD2/MISO (io), 3 PD3/MOSI (io), 4 PD4/SCK (io), 5 PD5/~{SS} (io), 6 VSS (power), 7 VDD (power), 8 VDD (power), 9 PA7/PAI/OC1 (io), 10 PA6/OC2/OC1 (io), 11 PA5/OC3/OC1 (io), 12 PA4/OC4/OC1 (io), 13 PA3/OC5/IC4/OC1 (io), 14 PA2/IC1 (io), 15 PA1/IC2 (io), 16 PA0/IC3 (io), 17 PB7/ADDR15 (out), 18 PB6/ADDR14 (out), 19 PB5/ADDR13 (out), 20 PB4/ADDR12 (out), 21 PB3/ADDR11 (out), 22 PB2/ADDR10 (out), 23 PB1/ADDR9 (out), 24 PB0/ADDR8 (out), 25 PH0/PW1 (io), 26 PH1/PW2 (io), 27 PH2/PW3 (io), 28 PH3/PW4 (io), 29 ~{XIRQ}/VPPE (in), 30 PG7/R/~{W} (io), 31 ~{IRQ} (in), 32 AVDD (power), 33 VSS (power), 34 PE3/AN3 (in), 35 PE2/AN2 (in), 36 PE1/AN1 (in), 37 PE0/AN0 (in), 38 VRL (in), 39 VRH (in), 40 AVSS (power), 41 VSS (power), 42 PF7/ADDR7 (out), 43 PF6/ADDR6 (out), 44 PF5/ADDR5 (out), 45 PF4/ADDR4 (out), 46 PF3/ADDR3 (out), 47 PF2/ADDR2 (out), 48 PF1/ADDR1 (out), 49 PF0/ADDR0 (out), 50 PC0/DATA0 (io), 51 PC1/DATA1 (io), 52 PC2/DATA2 (io), 53 PC3/DATA3 (io), 54 PC4/DATA4 (io), 55 PC5/DATA5 (io), 56 PC6/DATA6 (io), 57 PC7/DATA7 (io), 58 E (out), 59 EXTAL, 60 XTAL, 61 ~{RESET} (io), 62 MODB/VSTBY (in), 63 MODA/~{LIR} (io), 64 PD0/RXD (io)

## MC68HC711KA2MFU4
designator U?
8-Bit Microcontroller; Published: 17-Jan-2003; LatestRevisionDate: 13-Apr-2006; LatestRevisionNote: IPC-7351 Footprint Added.; DatasheetVersion: 1996; PackageVersion: rev4, Jul-2002; PackageReference: 840C; Publisher: Altium Limited; PackageDescription: 64-Pin Quad Flat Pack 0.8 mm Pitch; ComponentLink1Description: Manufacturer Link; ComponentLink1URL: http://www.freescale.com/
footprint 840C_N (QFP, 64-Leads, Body 14x14mm, Pitch 0.8mm, IPC Medium Density)
footprint 840C_L (QFP, 64-Leads, Body 14x14mm, Pitch 0.8mm, IPC High Density)
footprint 840C_M (QFP, 64-Leads, Body 14x14mm, Pitch 0.8mm, IPC Low Density)
3D model MC68HC711-840C (64-Pin Quad Flat Pack 0.8 mm Pitch)
pins: 1 PD1/TXD (io), 2 PD2/MISO (io), 3 PD3/MOSI (io), 4 PD4/SCK (io), 5 PD5/~{SS} (io), 6 VSS (power), 7 VDD (power), 8 VDD (power), 9 PA7/PAI/OC1 (io), 10 PA6/OC2/OC1 (io), 11 PA5/OC3/OC1 (io), 12 PA4/OC4/OC1 (io), 13 PA3/OC5/IC4/OC1 (io), 14 PA2/IC1 (io), 15 PA1/IC2 (io), 16 PA0/IC3 (io), 17 PB7/ADDR15 (out), 18 PB6/ADDR14 (out), 19 PB5/ADDR13 (out), 20 PB4/ADDR12 (out), 21 PB3/ADDR11 (out), 22 PB2/ADDR10 (out), 23 PB1/ADDR9 (out), 24 PB0/ADDR8 (out), 25 PH0/PW1 (io), 26 PH1/PW2 (io), 27 PH2/PW3 (io), 28 PH3/PW4 (io), 29 ~{XIRQ}/VPPE (in), 30 PG7/R/~{W} (io), 31 ~{IRQ} (in), 32 AVDD (power), 33 VSS (power), 34 PE3/AN3 (in), 35 PE2/AN2 (in), 36 PE1/AN1 (in), 37 PE0/AN0 (in), 38 VRL (in), 39 VRH (in), 40 AVSS (power), 41 VSS (power), 42 PF7/ADDR7 (out), 43 PF6/ADDR6 (out), 44 PF5/ADDR5 (out), 45 PF4/ADDR4 (out), 46 PF3/ADDR3 (out), 47 PF2/ADDR2 (out), 48 PF1/ADDR1 (out), 49 PF0/ADDR0 (out), 50 PC0/DATA0 (io), 51 PC1/DATA1 (io), 52 PC2/DATA2 (io), 53 PC3/DATA3 (io), 54 PC4/DATA4 (io), 55 PC5/DATA5 (io), 56 PC6/DATA6 (io), 57 PC7/DATA7 (io), 58 E (out), 59 EXTAL, 60 XTAL, 61 ~{RESET} (io), 62 MODB/VSTBY (in), 63 MODA/~{LIR} (io), 64 PD0/RXD (io)

## MC68HC711KA2VFN2
designator U?
8-Bit Microcontroller; Published: 17-Jan-2003; LatestRevisionDate: 13-Apr-2006; LatestRevisionNote: IPC-7351 Footprint Added.; DatasheetVersion: 1996; PackageVersion: 2001; PackageReference: 779-02; Publisher: Altium Limited; PackageDescription: 68-Pin Leaded Chip Carrier 1.27 mm Pitch; ComponentLink1Description: Manufacturer Link; ComponentLink1URL: http://www.freescale.com/
footprint 779-02_N (Leaded Chip Carrier, 68-Leads, Body 24.2x24.2mm, Pitch 1.27mm, IPC Medium Density)
footprint 779-02_L (Leaded Chip Carrier, 68-Leads, Body 24.2x24.2mm, Pitch 1.27mm, IPC High Density)
footprint 779-02_M (Leaded Chip Carrier, 68-Leads, Body 24.2x24.2mm, Pitch 1.27mm, IPC Low Density)
3D model MC68HC711-779-02 (68-Pin Leaded Chip Carrier 1.27 mm Pitch)
pins: 1 VDDINT (power), 2 PA7/PAI/OC1 (io), 3 PA6/OC2/OC1 (io), 4 PA5/OC3/OC1 (io), 5 PA4/OC4/OC1 (io), 6 PA3/OC5/IC4/OC1 (io), 7 PA2/IC1 (io), 8 PA1/IC2 (io), 9 PA0/IC3 (io), 10 PB7/ADDR15 (out), 11 PB6/ADDR14 (out), 12 PB5/ADDR13 (out), 13 PB4/ADDR12 (out), 14 PB3/ADDR11 (out), 15 PB2/ADDR10 (out), 16 PB1/ADDR9 (out), 17 PB0/ADDR8 (out), 18 PH0/PW1 (io), 19 PH1/PW2 (io), 20 PH2/PW3 (io), 21 PH3/PW4 (io), 22 ~{XIRQ}/VPPE (in), 23 PG7/R/~{W} (io), 24 ~{IRQ} (in), 25 AVDD (power), 26 PE7/AN7 (in), 27 PE6/AN6 (in), 28 PE5/AN5 (in), 29 PE4/AN4 (in), 30 PE3/AN3 (in), 31 PE2/AN2 (in), 32 PE1/AN1 (in), 33 PE0/AN0 (in), 34 VRL (in), 35 VRH (in), 36 AVSS (power), 37 VSSINT (power), 38 PF7/ADDR7 (out), 39 PF6/ADDR6 (out), 40 PF5/ADDR5 (out), 41 PF4/ADDR4 (out), 42 PF3/ADDR3 (out), 43 PF2/ADDR2 (out), 44 PF1/ADDR1 (out), 45 PF0/ADDR0 (out), 46 PC0/DATA0 (io), 47 PC1/DATA1 (io), 48 PC2/DATA2 (io), 49 PC3/DATA3 (io), 50 PC4/DATA4 (io), 51 PC5/DATA5 (io), 52 PC6/DATA6 (io), 53 PC7/DATA7 (io), 54 E (out), 55 XOUT (out), 56 EXTAL, 57 XTAL, 58 ~{RESET} (io), 59 MODB/VSTBY (in), 60 MODA/~{LIR} (io), 61 PD0/RXD (io), 62 PD1/TXD (io), 63 PD2/MISO (io), 64 PD3/MOSI (io), 65 PD4/SCK (io), 66 PD5/~{SS} (io), 67 VSSEXT (power), 68 VDDEXT (power)

## MC68HC711KA2VFN3
designator U?
8-Bit Microcontroller; Published: 17-Jan-2003; LatestRevisionDate: 13-Apr-2006; LatestRevisionNote: IPC-7351 Footprint Added.; DatasheetVersion: 1996; PackageVersion: 2001; PackageReference: 779-02; Publisher: Altium Limited; PackageDescription: 68-Pin Leaded Chip Carrier 1.27 mm Pitch; ComponentLink1Description: Manufacturer Link; ComponentLink1URL: http://www.freescale.com/
footprint 779-02_N (Leaded Chip Carrier, 68-Leads, Body 24.2x24.2mm, Pitch 1.27mm, IPC Medium Density)
footprint 779-02_L (Leaded Chip Carrier, 68-Leads, Body 24.2x24.2mm, Pitch 1.27mm, IPC High Density)
footprint 779-02_M (Leaded Chip Carrier, 68-Leads, Body 24.2x24.2mm, Pitch 1.27mm, IPC Low Density)
3D model MC68HC711-779-02 (68-Pin Leaded Chip Carrier 1.27 mm Pitch)
pins: 1 VDDINT (power), 2 PA7/PAI/OC1 (io), 3 PA6/OC2/OC1 (io), 4 PA5/OC3/OC1 (io), 5 PA4/OC4/OC1 (io), 6 PA3/OC5/IC4/OC1 (io), 7 PA2/IC1 (io), 8 PA1/IC2 (io), 9 PA0/IC3 (io), 10 PB7/ADDR15 (out), 11 PB6/ADDR14 (out), 12 PB5/ADDR13 (out), 13 PB4/ADDR12 (out), 14 PB3/ADDR11 (out), 15 PB2/ADDR10 (out), 16 PB1/ADDR9 (out), 17 PB0/ADDR8 (out), 18 PH0/PW1 (io), 19 PH1/PW2 (io), 20 PH2/PW3 (io), 21 PH3/PW4 (io), 22 ~{XIRQ}/VPPE (in), 23 PG7/R/~{W} (io), 24 ~{IRQ} (in), 25 AVDD (power), 26 PE7/AN7 (in), 27 PE6/AN6 (in), 28 PE5/AN5 (in), 29 PE4/AN4 (in), 30 PE3/AN3 (in), 31 PE2/AN2 (in), 32 PE1/AN1 (in), 33 PE0/AN0 (in), 34 VRL (in), 35 VRH (in), 36 AVSS (power), 37 VSSINT (power), 38 PF7/ADDR7 (out), 39 PF6/ADDR6 (out), 40 PF5/ADDR5 (out), 41 PF4/ADDR4 (out), 42 PF3/ADDR3 (out), 43 PF2/ADDR2 (out), 44 PF1/ADDR1 (out), 45 PF0/ADDR0 (out), 46 PC0/DATA0 (io), 47 PC1/DATA1 (io), 48 PC2/DATA2 (io), 49 PC3/DATA3 (io), 50 PC4/DATA4 (io), 51 PC5/DATA5 (io), 52 PC6/DATA6 (io), 53 PC7/DATA7 (io), 54 E (out), 55 XOUT (out), 56 EXTAL, 57 XTAL, 58 ~{RESET} (io), 59 MODB/VSTBY (in), 60 MODA/~{LIR} (io), 61 PD0/RXD (io), 62 PD1/TXD (io), 63 PD2/MISO (io), 64 PD3/MOSI (io), 65 PD4/SCK (io), 66 PD5/~{SS} (io), 67 VSSEXT (power), 68 VDDEXT (power)

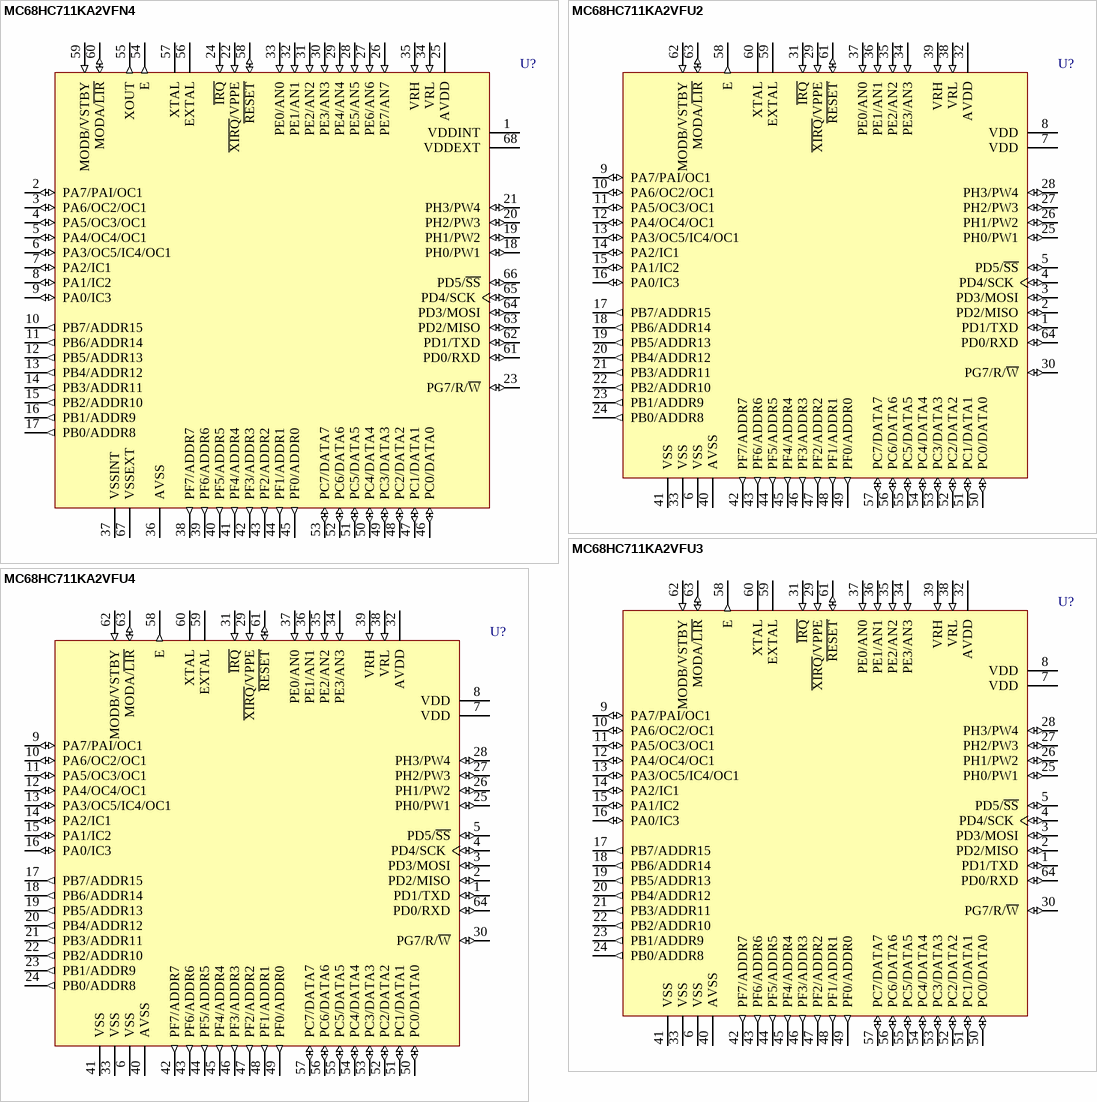
[diagram p83: symbols MC68HC711KA2VFN4 to MC68HC711KA2VFU4]

## MC68HC711KA2VFN4
designator U?
8-Bit Microcontroller; Published: 17-Jan-2003; LatestRevisionDate: 13-Apr-2006; LatestRevisionNote: IPC-7351 Footprint Added.; DatasheetVersion: 1996; PackageVersion: 2001; PackageReference: 779-02; Publisher: Altium Limited; PackageDescription: 68-Pin Leaded Chip Carrier 1.27 mm Pitch; ComponentLink1Description: Manufacturer Link; ComponentLink1URL: http://www.freescale.com/
footprint 779-02_N (Leaded Chip Carrier, 68-Leads, Body 24.2x24.2mm, Pitch 1.27mm, IPC Medium Density)
footprint 779-02_L (Leaded Chip Carrier, 68-Leads, Body 24.2x24.2mm, Pitch 1.27mm, IPC High Density)
footprint 779-02_M (Leaded Chip Carrier, 68-Leads, Body 24.2x24.2mm, Pitch 1.27mm, IPC Low Density)
3D model MC68HC711-779-02 (68-Pin Leaded Chip Carrier 1.27 mm Pitch)
pins: 1 VDDINT (power), 2 PA7/PAI/OC1 (io), 3 PA6/OC2/OC1 (io), 4 PA5/OC3/OC1 (io), 5 PA4/OC4/OC1 (io), 6 PA3/OC5/IC4/OC1 (io), 7 PA2/IC1 (io), 8 PA1/IC2 (io), 9 PA0/IC3 (io), 10 PB7/ADDR15 (out), 11 PB6/ADDR14 (out), 12 PB5/ADDR13 (out), 13 PB4/ADDR12 (out), 14 PB3/ADDR11 (out), 15 PB2/ADDR10 (out), 16 PB1/ADDR9 (out), 17 PB0/ADDR8 (out), 18 PH0/PW1 (io), 19 PH1/PW2 (io), 20 PH2/PW3 (io), 21 PH3/PW4 (io), 22 ~{XIRQ}/VPPE (in), 23 PG7/R/~{W} (io), 24 ~{IRQ} (in), 25 AVDD (power), 26 PE7/AN7 (in), 27 PE6/AN6 (in), 28 PE5/AN5 (in), 29 PE4/AN4 (in), 30 PE3/AN3 (in), 31 PE2/AN2 (in), 32 PE1/AN1 (in), 33 PE0/AN0 (in), 34 VRL (in), 35 VRH (in), 36 AVSS (power), 37 VSSINT (power), 38 PF7/ADDR7 (out), 39 PF6/ADDR6 (out), 40 PF5/ADDR5 (out), 41 PF4/ADDR4 (out), 42 PF3/ADDR3 (out), 43 PF2/ADDR2 (out), 44 PF1/ADDR1 (out), 45 PF0/ADDR0 (out), 46 PC0/DATA0 (io), 47 PC1/DATA1 (io), 48 PC2/DATA2 (io), 49 PC3/DATA3 (io), 50 PC4/DATA4 (io), 51 PC5/DATA5 (io), 52 PC6/DATA6 (io), 53 PC7/DATA7 (io), 54 E (out), 55 XOUT (out), 56 EXTAL, 57 XTAL, 58 ~{RESET} (io), 59 MODB/VSTBY (in), 60 MODA/~{LIR} (io), 61 PD0/RXD (io), 62 PD1/TXD (io), 63 PD2/MISO (io), 64 PD3/MOSI (io), 65 PD4/SCK (io), 66 PD5/~{SS} (io), 67 VSSEXT (power), 68 VDDEXT (power)

## MC68HC711KA2VFU2
designator U?
8-Bit Microcontroller; Published: 17-Jan-2003; LatestRevisionDate: 13-Apr-2006; LatestRevisionNote: IPC-7351 Footprint Added.; DatasheetVersion: 1996; PackageVersion: rev4, Jul-2002; PackageReference: 840C; Publisher: Altium Limited; PackageDescription: 64-Pin Quad Flat Pack 0.8 mm Pitch; ComponentLink1Description: Manufacturer Link; ComponentLink1URL: http://www.freescale.com/
footprint 840C_N (QFP, 64-Leads, Body 14x14mm, Pitch 0.8mm, IPC Medium Density)
footprint 840C_L (QFP, 64-Leads, Body 14x14mm, Pitch 0.8mm, IPC High Density)
footprint 840C_M (QFP, 64-Leads, Body 14x14mm, Pitch 0.8mm, IPC Low Density)
3D model MC68HC711-840C (64-Pin Quad Flat Pack 0.8 mm Pitch)
pins: 1 PD1/TXD (io), 2 PD2/MISO (io), 3 PD3/MOSI (io), 4 PD4/SCK (io), 5 PD5/~{SS} (io), 6 VSS (power), 7 VDD (power), 8 VDD (power), 9 PA7/PAI/OC1 (io), 10 PA6/OC2/OC1 (io), 11 PA5/OC3/OC1 (io), 12 PA4/OC4/OC1 (io), 13 PA3/OC5/IC4/OC1 (io), 14 PA2/IC1 (io), 15 PA1/IC2 (io), 16 PA0/IC3 (io), 17 PB7/ADDR15 (out), 18 PB6/ADDR14 (out), 19 PB5/ADDR13 (out), 20 PB4/ADDR12 (out), 21 PB3/ADDR11 (out), 22 PB2/ADDR10 (out), 23 PB1/ADDR9 (out), 24 PB0/ADDR8 (out), 25 PH0/PW1 (io), 26 PH1/PW2 (io), 27 PH2/PW3 (io), 28 PH3/PW4 (io), 29 ~{XIRQ}/VPPE (in), 30 PG7/R/~{W} (io), 31 ~{IRQ} (in), 32 AVDD (power), 33 VSS (power), 34 PE3/AN3 (in), 35 PE2/AN2 (in), 36 PE1/AN1 (in), 37 PE0/AN0 (in), 38 VRL (in), 39 VRH (in), 40 AVSS (power), 41 VSS (power), 42 PF7/ADDR7 (out), 43 PF6/ADDR6 (out), 44 PF5/ADDR5 (out), 45 PF4/ADDR4 (out), 46 PF3/ADDR3 (out), 47 PF2/ADDR2 (out), 48 PF1/ADDR1 (out), 49 PF0/ADDR0 (out), 50 PC0/DATA0 (io), 51 PC1/DATA1 (io), 52 PC2/DATA2 (io), 53 PC3/DATA3 (io), 54 PC4/DATA4 (io), 55 PC5/DATA5 (io), 56 PC6/DATA6 (io), 57 PC7/DATA7 (io), 58 E (out), 59 EXTAL, 60 XTAL, 61 ~{RESET} (io), 62 MODB/VSTBY (in), 63 MODA/~{LIR} (io), 64 PD0/RXD (io)

## MC68HC711KA2VFU3
designator U?
8-Bit Microcontroller; Published: 17-Jan-2003; LatestRevisionDate: 13-Apr-2006; LatestRevisionNote: IPC-7351 Footprint Added.; DatasheetVersion: 1996; PackageVersion: rev4, Jul-2002; PackageReference: 840C; Publisher: Altium Limited; PackageDescription: 64-Pin Quad Flat Pack 0.8 mm Pitch; ComponentLink1Description: Manufacturer Link; ComponentLink1URL: http://www.freescale.com/
footprint 840C_N (QFP, 64-Leads, Body 14x14mm, Pitch 0.8mm, IPC Medium Density)
footprint 840C_L (QFP, 64-Leads, Body 14x14mm, Pitch 0.8mm, IPC High Density)
footprint 840C_M (QFP, 64-Leads, Body 14x14mm, Pitch 0.8mm, IPC Low Density)
3D model MC68HC711-840C (64-Pin Quad Flat Pack 0.8 mm Pitch)
pins: 1 PD1/TXD (io), 2 PD2/MISO (io), 3 PD3/MOSI (io), 4 PD4/SCK (io), 5 PD5/~{SS} (io), 6 VSS (power), 7 VDD (power), 8 VDD (power), 9 PA7/PAI/OC1 (io), 10 PA6/OC2/OC1 (io), 11 PA5/OC3/OC1 (io), 12 PA4/OC4/OC1 (io), 13 PA3/OC5/IC4/OC1 (io), 14 PA2/IC1 (io), 15 PA1/IC2 (io), 16 PA0/IC3 (io), 17 PB7/ADDR15 (out), 18 PB6/ADDR14 (out), 19 PB5/ADDR13 (out), 20 PB4/ADDR12 (out), 21 PB3/ADDR11 (out), 22 PB2/ADDR10 (out), 23 PB1/ADDR9 (out), 24 PB0/ADDR8 (out), 25 PH0/PW1 (io), 26 PH1/PW2 (io), 27 PH2/PW3 (io), 28 PH3/PW4 (io), 29 ~{XIRQ}/VPPE (in), 30 PG7/R/~{W} (io), 31 ~{IRQ} (in), 32 AVDD (power), 33 VSS (power), 34 PE3/AN3 (in), 35 PE2/AN2 (in), 36 PE1/AN1 (in), 37 PE0/AN0 (in), 38 VRL (in), 39 VRH (in), 40 AVSS (power), 41 VSS (power), 42 PF7/ADDR7 (out), 43 PF6/ADDR6 (out), 44 PF5/ADDR5 (out), 45 PF4/ADDR4 (out), 46 PF3/ADDR3 (out), 47 PF2/ADDR2 (out), 48 PF1/ADDR1 (out), 49 PF0/ADDR0 (out), 50 PC0/DATA0 (io), 51 PC1/DATA1 (io), 52 PC2/DATA2 (io), 53 PC3/DATA3 (io), 54 PC4/DATA4 (io), 55 PC5/DATA5 (io), 56 PC6/DATA6 (io), 57 PC7/DATA7 (io), 58 E (out), 59 EXTAL, 60 XTAL, 61 ~{RESET} (io), 62 MODB/VSTBY (in), 63 MODA/~{LIR} (io), 64 PD0/RXD (io)

## MC68HC711KA2VFU4
designator U?
8-Bit Microcontroller; Published: 17-Jan-2003; LatestRevisionDate: 13-Apr-2006; LatestRevisionNote: IPC-7351 Footprint Added.; DatasheetVersion: 1996; PackageVersion: rev4, Jul-2002; PackageReference: 840C; Publisher: Altium Limited; PackageDescription: 64-Pin Quad Flat Pack 0.8 mm Pitch; ComponentLink1Description: Manufacturer Link; ComponentLink1URL: http://www.freescale.com/
footprint 840C_N (QFP, 64-Leads, Body 14x14mm, Pitch 0.8mm, IPC Medium Density)
footprint 840C_L (QFP, 64-Leads, Body 14x14mm, Pitch 0.8mm, IPC High Density)
footprint 840C_M (QFP, 64-Leads, Body 14x14mm, Pitch 0.8mm, IPC Low Density)
3D model MC68HC711-840C (64-Pin Quad Flat Pack 0.8 mm Pitch)
pins: 1 PD1/TXD (io), 2 PD2/MISO (io), 3 PD3/MOSI (io), 4 PD4/SCK (io), 5 PD5/~{SS} (io), 6 VSS (power), 7 VDD (power), 8 VDD (power), 9 PA7/PAI/OC1 (io), 10 PA6/OC2/OC1 (io), 11 PA5/OC3/OC1 (io), 12 PA4/OC4/OC1 (io), 13 PA3/OC5/IC4/OC1 (io), 14 PA2/IC1 (io), 15 PA1/IC2 (io), 16 PA0/IC3 (io), 17 PB7/ADDR15 (out), 18 PB6/ADDR14 (out), 19 PB5/ADDR13 (out), 20 PB4/ADDR12 (out), 21 PB3/ADDR11 (out), 22 PB2/ADDR10 (out), 23 PB1/ADDR9 (out), 24 PB0/ADDR8 (out), 25 PH0/PW1 (io), 26 PH1/PW2 (io), 27 PH2/PW3 (io), 28 PH3/PW4 (io), 29 ~{XIRQ}/VPPE (in), 30 PG7/R/~{W} (io), 31 ~{IRQ} (in), 32 AVDD (power), 33 VSS (power), 34 PE3/AN3 (in), 35 PE2/AN2 (in), 36 PE1/AN1 (in), 37 PE0/AN0 (in), 38 VRL (in), 39 VRH (in), 40 AVSS (power), 41 VSS (power), 42 PF7/ADDR7 (out), 43 PF6/ADDR6 (out), 44 PF5/ADDR5 (out), 45 PF4/ADDR4 (out), 46 PF3/ADDR3 (out), 47 PF2/ADDR2 (out), 48 PF1/ADDR1 (out), 49 PF0/ADDR0 (out), 50 PC0/DATA0 (io), 51 PC1/DATA1 (io), 52 PC2/DATA2 (io), 53 PC3/DATA3 (io), 54 PC4/DATA4 (io), 55 PC5/DATA5 (io), 56 PC6/DATA6 (io), 57 PC7/DATA7 (io), 58 E (out), 59 EXTAL, 60 XTAL, 61 ~{RESET} (io), 62 MODB/VSTBY (in), 63 MODA/~{LIR} (io), 64 PD0/RXD (io)

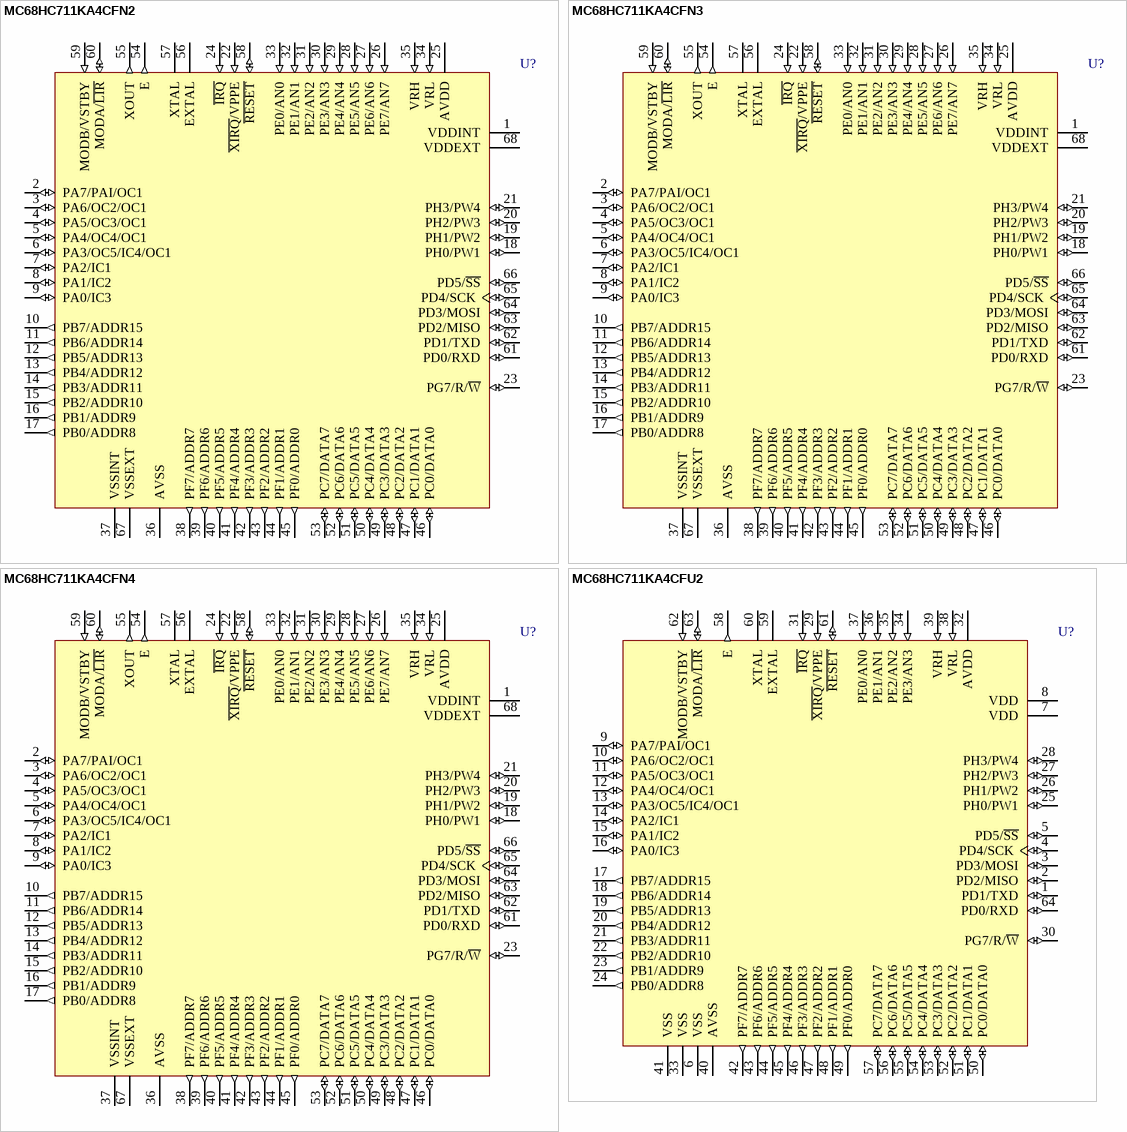
[diagram p84: symbols MC68HC711KA4CFN2 to MC68HC711KA4CFU2]

## MC68HC711KA4CFN2
designator U?
8-Bit Microcontroller; Published: 17-Jan-2003; LatestRevisionDate: 13-Apr-2006; LatestRevisionNote: IPC-7351 Footprint Added.; DatasheetVersion: 1996; PackageVersion: 2001; PackageReference: 779-02; Publisher: Altium Limited; PackageDescription: 68-Pin Leaded Chip Carrier 1.27 mm Pitch; ComponentLink1Description: Manufacturer Link; ComponentLink1URL: http://www.freescale.com/
footprint 779-02_N (Leaded Chip Carrier, 68-Leads, Body 24.2x24.2mm, Pitch 1.27mm, IPC Medium Density)
footprint 779-02_L (Leaded Chip Carrier, 68-Leads, Body 24.2x24.2mm, Pitch 1.27mm, IPC High Density)
footprint 779-02_M (Leaded Chip Carrier, 68-Leads, Body 24.2x24.2mm, Pitch 1.27mm, IPC Low Density)
3D model MC68HC711-779-02 (68-Pin Leaded Chip Carrier 1.27 mm Pitch)
pins: 1 VDDINT (power), 2 PA7/PAI/OC1 (io), 3 PA6/OC2/OC1 (io), 4 PA5/OC3/OC1 (io), 5 PA4/OC4/OC1 (io), 6 PA3/OC5/IC4/OC1 (io), 7 PA2/IC1 (io), 8 PA1/IC2 (io), 9 PA0/IC3 (io), 10 PB7/ADDR15 (out), 11 PB6/ADDR14 (out), 12 PB5/ADDR13 (out), 13 PB4/ADDR12 (out), 14 PB3/ADDR11 (out), 15 PB2/ADDR10 (out), 16 PB1/ADDR9 (out), 17 PB0/ADDR8 (out), 18 PH0/PW1 (io), 19 PH1/PW2 (io), 20 PH2/PW3 (io), 21 PH3/PW4 (io), 22 ~{XIRQ}/VPPE (in), 23 PG7/R/~{W} (io), 24 ~{IRQ} (in), 25 AVDD (power), 26 PE7/AN7 (in), 27 PE6/AN6 (in), 28 PE5/AN5 (in), 29 PE4/AN4 (in), 30 PE3/AN3 (in), 31 PE2/AN2 (in), 32 PE1/AN1 (in), 33 PE0/AN0 (in), 34 VRL (in), 35 VRH (in), 36 AVSS (power), 37 VSSINT (power), 38 PF7/ADDR7 (out), 39 PF6/ADDR6 (out), 40 PF5/ADDR5 (out), 41 PF4/ADDR4 (out), 42 PF3/ADDR3 (out), 43 PF2/ADDR2 (out), 44 PF1/ADDR1 (out), 45 PF0/ADDR0 (out), 46 PC0/DATA0 (io), 47 PC1/DATA1 (io), 48 PC2/DATA2 (io), 49 PC3/DATA3 (io), 50 PC4/DATA4 (io), 51 PC5/DATA5 (io), 52 PC6/DATA6 (io), 53 PC7/DATA7 (io), 54 E (out), 55 XOUT (out), 56 EXTAL, 57 XTAL, 58 ~{RESET} (io), 59 MODB/VSTBY (in), 60 MODA/~{LIR} (io), 61 PD0/RXD (io), 62 PD1/TXD (io), 63 PD2/MISO (io), 64 PD3/MOSI (io), 65 PD4/SCK (io), 66 PD5/~{SS} (io), 67 VSSEXT (power), 68 VDDEXT (power)

## MC68HC711KA4CFN3
designator U?
8-Bit Microcontroller; Published: 17-Jan-2003; LatestRevisionDate: 13-Apr-2006; LatestRevisionNote: IPC-7351 Footprint Added.; DatasheetVersion: 1996; PackageVersion: 2001; PackageReference: 779-02; Publisher: Altium Limited; PackageDescription: 68-Pin Leaded Chip Carrier 1.27 mm Pitch; ComponentLink1Description: Manufacturer Link; ComponentLink1URL: http://www.freescale.com/
footprint 779-02_N (Leaded Chip Carrier, 68-Leads, Body 24.2x24.2mm, Pitch 1.27mm, IPC Medium Density)
footprint 779-02_L (Leaded Chip Carrier, 68-Leads, Body 24.2x24.2mm, Pitch 1.27mm, IPC High Density)
footprint 779-02_M (Leaded Chip Carrier, 68-Leads, Body 24.2x24.2mm, Pitch 1.27mm, IPC Low Density)
3D model MC68HC711-779-02 (68-Pin Leaded Chip Carrier 1.27 mm Pitch)
pins: 1 VDDINT (power), 2 PA7/PAI/OC1 (io), 3 PA6/OC2/OC1 (io), 4 PA5/OC3/OC1 (io), 5 PA4/OC4/OC1 (io), 6 PA3/OC5/IC4/OC1 (io), 7 PA2/IC1 (io), 8 PA1/IC2 (io), 9 PA0/IC3 (io), 10 PB7/ADDR15 (out), 11 PB6/ADDR14 (out), 12 PB5/ADDR13 (out), 13 PB4/ADDR12 (out), 14 PB3/ADDR11 (out), 15 PB2/ADDR10 (out), 16 PB1/ADDR9 (out), 17 PB0/ADDR8 (out), 18 PH0/PW1 (io), 19 PH1/PW2 (io), 20 PH2/PW3 (io), 21 PH3/PW4 (io), 22 ~{XIRQ}/VPPE (in), 23 PG7/R/~{W} (io), 24 ~{IRQ} (in), 25 AVDD (power), 26 PE7/AN7 (in), 27 PE6/AN6 (in), 28 PE5/AN5 (in), 29 PE4/AN4 (in), 30 PE3/AN3 (in), 31 PE2/AN2 (in), 32 PE1/AN1 (in), 33 PE0/AN0 (in), 34 VRL (in), 35 VRH (in), 36 AVSS (power), 37 VSSINT (power), 38 PF7/ADDR7 (out), 39 PF6/ADDR6 (out), 40 PF5/ADDR5 (out), 41 PF4/ADDR4 (out), 42 PF3/ADDR3 (out), 43 PF2/ADDR2 (out), 44 PF1/ADDR1 (out), 45 PF0/ADDR0 (out), 46 PC0/DATA0 (io), 47 PC1/DATA1 (io), 48 PC2/DATA2 (io), 49 PC3/DATA3 (io), 50 PC4/DATA4 (io), 51 PC5/DATA5 (io), 52 PC6/DATA6 (io), 53 PC7/DATA7 (io), 54 E (out), 55 XOUT (out), 56 EXTAL, 57 XTAL, 58 ~{RESET} (io), 59 MODB/VSTBY (in), 60 MODA/~{LIR} (io), 61 PD0/RXD (io), 62 PD1/TXD (io), 63 PD2/MISO (io), 64 PD3/MOSI (io), 65 PD4/SCK (io), 66 PD5/~{SS} (io), 67 VSSEXT (power), 68 VDDEXT (power)

## MC68HC711KA4CFN4
designator U?
8-Bit Microcontroller; Published: 17-Jan-2003; LatestRevisionDate: 13-Apr-2006; LatestRevisionNote: IPC-7351 Footprint Added.; DatasheetVersion: 1996; PackageVersion: 2001; PackageReference: 779-02; Publisher: Altium Limited; PackageDescription: 68-Pin Leaded Chip Carrier 1.27 mm Pitch; ComponentLink1Description: Manufacturer Link; ComponentLink1URL: http://www.freescale.com/
footprint 779-02_N (Leaded Chip Carrier, 68-Leads, Body 24.2x24.2mm, Pitch 1.27mm, IPC Medium Density)
footprint 779-02_L (Leaded Chip Carrier, 68-Leads, Body 24.2x24.2mm, Pitch 1.27mm, IPC High Density)
footprint 779-02_M (Leaded Chip Carrier, 68-Leads, Body 24.2x24.2mm, Pitch 1.27mm, IPC Low Density)
3D model MC68HC711-779-02 (68-Pin Leaded Chip Carrier 1.27 mm Pitch)
pins: 1 VDDINT (power), 2 PA7/PAI/OC1 (io), 3 PA6/OC2/OC1 (io), 4 PA5/OC3/OC1 (io), 5 PA4/OC4/OC1 (io), 6 PA3/OC5/IC4/OC1 (io), 7 PA2/IC1 (io), 8 PA1/IC2 (io), 9 PA0/IC3 (io), 10 PB7/ADDR15 (out), 11 PB6/ADDR14 (out), 12 PB5/ADDR13 (out), 13 PB4/ADDR12 (out), 14 PB3/ADDR11 (out), 15 PB2/ADDR10 (out), 16 PB1/ADDR9 (out), 17 PB0/ADDR8 (out), 18 PH0/PW1 (io), 19 PH1/PW2 (io), 20 PH2/PW3 (io), 21 PH3/PW4 (io), 22 ~{XIRQ}/VPPE (in), 23 PG7/R/~{W} (io), 24 ~{IRQ} (in), 25 AVDD (power), 26 PE7/AN7 (in), 27 PE6/AN6 (in), 28 PE5/AN5 (in), 29 PE4/AN4 (in), 30 PE3/AN3 (in), 31 PE2/AN2 (in), 32 PE1/AN1 (in), 33 PE0/AN0 (in), 34 VRL (in), 35 VRH (in), 36 AVSS (power), 37 VSSINT (power), 38 PF7/ADDR7 (out), 39 PF6/ADDR6 (out), 40 PF5/ADDR5 (out), 41 PF4/ADDR4 (out), 42 PF3/ADDR3 (out), 43 PF2/ADDR2 (out), 44 PF1/ADDR1 (out), 45 PF0/ADDR0 (out), 46 PC0/DATA0 (io), 47 PC1/DATA1 (io), 48 PC2/DATA2 (io), 49 PC3/DATA3 (io), 50 PC4/DATA4 (io), 51 PC5/DATA5 (io), 52 PC6/DATA6 (io), 53 PC7/DATA7 (io), 54 E (out), 55 XOUT (out), 56 EXTAL, 57 XTAL, 58 ~{RESET} (io), 59 MODB/VSTBY (in), 60 MODA/~{LIR} (io), 61 PD0/RXD (io), 62 PD1/TXD (io), 63 PD2/MISO (io), 64 PD3/MOSI (io), 65 PD4/SCK (io), 66 PD5/~{SS} (io), 67 VSSEXT (power), 68 VDDEXT (power)

## MC68HC711KA4CFU2
designator U?
8-Bit Microcontroller; Published: 17-Jan-2003; LatestRevisionDate: 13-Apr-2006; LatestRevisionNote: IPC-7351 Footprint Added.; DatasheetVersion: 1996; PackageVersion: rev4, Jul-2002; PackageReference: 840C; Publisher: Altium Limited; PackageDescription: 64-Pin Quad Flat Pack 0.8 mm Pitch; ComponentLink1Description: Manufacturer Link; ComponentLink1URL: http://www.freescale.com/
footprint 840C_N (QFP, 64-Leads, Body 14x14mm, Pitch 0.8mm, IPC Medium Density)
footprint 840C_L (QFP, 64-Leads, Body 14x14mm, Pitch 0.8mm, IPC High Density)
footprint 840C_M (QFP, 64-Leads, Body 14x14mm, Pitch 0.8mm, IPC Low Density)
3D model MC68HC711-840C (64-Pin Quad Flat Pack 0.8 mm Pitch)
pins: 1 PD1/TXD (io), 2 PD2/MISO (io), 3 PD3/MOSI (io), 4 PD4/SCK (io), 5 PD5/~{SS} (io), 6 VSS (power), 7 VDD (power), 8 VDD (power), 9 PA7/PAI/OC1 (io), 10 PA6/OC2/OC1 (io), 11 PA5/OC3/OC1 (io), 12 PA4/OC4/OC1 (io), 13 PA3/OC5/IC4/OC1 (io), 14 PA2/IC1 (io), 15 PA1/IC2 (io), 16 PA0/IC3 (io), 17 PB7/ADDR15 (out), 18 PB6/ADDR14 (out), 19 PB5/ADDR13 (out), 20 PB4/ADDR12 (out), 21 PB3/ADDR11 (out), 22 PB2/ADDR10 (out), 23 PB1/ADDR9 (out), 24 PB0/ADDR8 (out), 25 PH0/PW1 (io), 26 PH1/PW2 (io), 27 PH2/PW3 (io), 28 PH3/PW4 (io), 29 ~{XIRQ}/VPPE (in), 30 PG7/R/~{W} (io), 31 ~{IRQ} (in), 32 AVDD (power), 33 VSS (power), 34 PE3/AN3 (in), 35 PE2/AN2 (in), 36 PE1/AN1 (in), 37 PE0/AN0 (in), 38 VRL (in), 39 VRH (in), 40 AVSS (power), 41 VSS (power), 42 PF7/ADDR7 (out), 43 PF6/ADDR6 (out), 44 PF5/ADDR5 (out), 45 PF4/ADDR4 (out), 46 PF3/ADDR3 (out), 47 PF2/ADDR2 (out), 48 PF1/ADDR1 (out), 49 PF0/ADDR0 (out), 50 PC0/DATA0 (io), 51 PC1/DATA1 (io), 52 PC2/DATA2 (io), 53 PC3/DATA3 (io), 54 PC4/DATA4 (io), 55 PC5/DATA5 (io), 56 PC6/DATA6 (io), 57 PC7/DATA7 (io), 58 E (out), 59 EXTAL, 60 XTAL, 61 ~{RESET} (io), 62 MODB/VSTBY (in), 63 MODA/~{LIR} (io), 64 PD0/RXD (io)

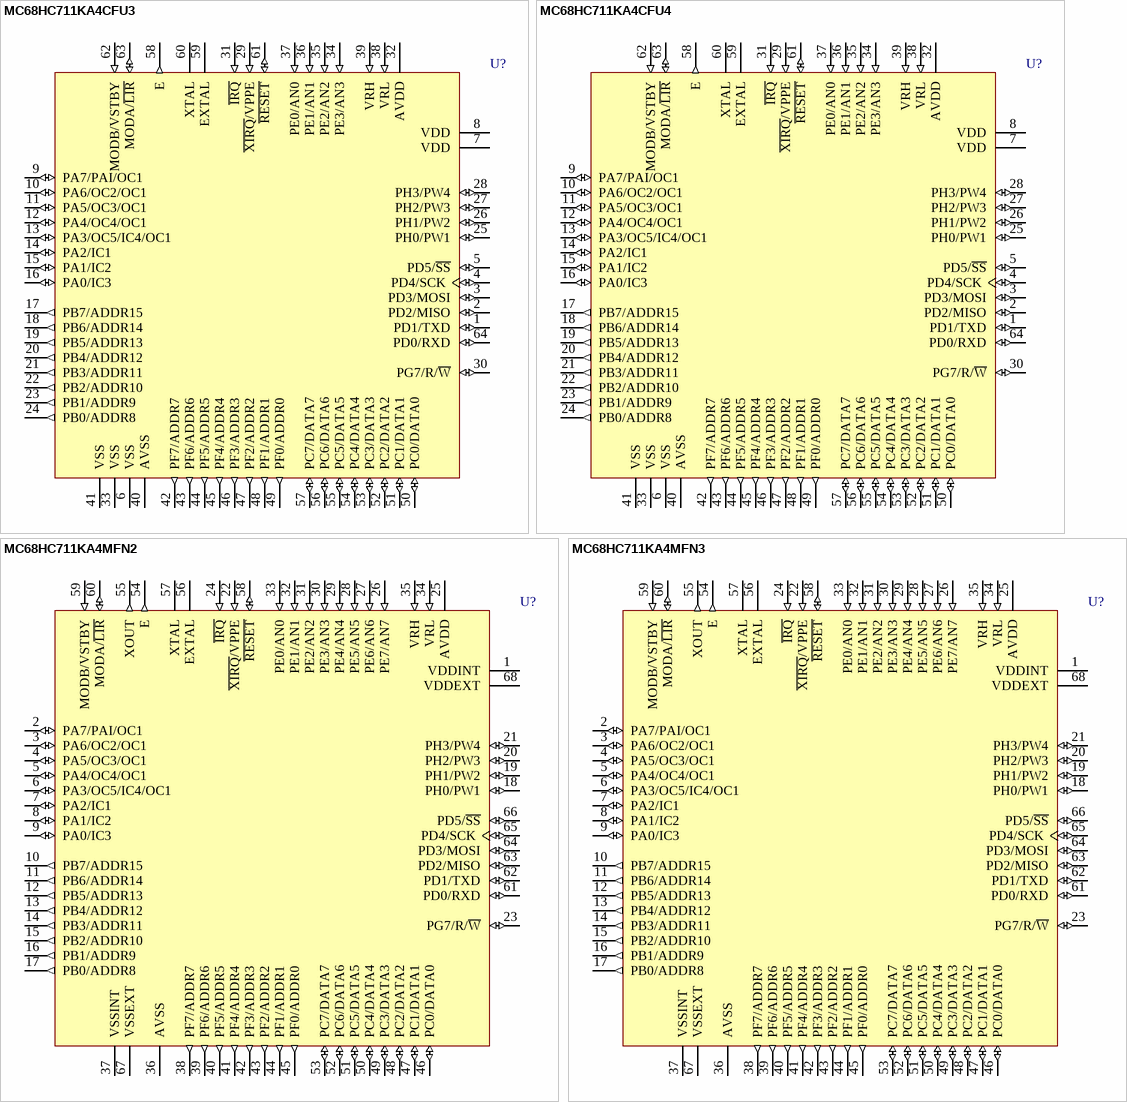
[diagram p85: symbols MC68HC711KA4CFU3 to MC68HC711KA4MFN3]

## MC68HC711KA4CFU3
designator U?
8-Bit Microcontroller; Published: 17-Jan-2003; LatestRevisionDate: 13-Apr-2006; LatestRevisionNote: IPC-7351 Footprint Added.; DatasheetVersion: 1996; PackageVersion: rev4, Jul-2002; PackageReference: 840C; Publisher: Altium Limited; PackageDescription: 64-Pin Quad Flat Pack 0.8 mm Pitch; ComponentLink1Description: Manufacturer Link; ComponentLink1URL: http://www.freescale.com/
footprint 840C_N (QFP, 64-Leads, Body 14x14mm, Pitch 0.8mm, IPC Medium Density)
footprint 840C_L (QFP, 64-Leads, Body 14x14mm, Pitch 0.8mm, IPC High Density)
footprint 840C_M (QFP, 64-Leads, Body 14x14mm, Pitch 0.8mm, IPC Low Density)
3D model MC68HC711-840C (64-Pin Quad Flat Pack 0.8 mm Pitch)
pins: 1 PD1/TXD (io), 2 PD2/MISO (io), 3 PD3/MOSI (io), 4 PD4/SCK (io), 5 PD5/~{SS} (io), 6 VSS (power), 7 VDD (power), 8 VDD (power), 9 PA7/PAI/OC1 (io), 10 PA6/OC2/OC1 (io), 11 PA5/OC3/OC1 (io), 12 PA4/OC4/OC1 (io), 13 PA3/OC5/IC4/OC1 (io), 14 PA2/IC1 (io), 15 PA1/IC2 (io), 16 PA0/IC3 (io), 17 PB7/ADDR15 (out), 18 PB6/ADDR14 (out), 19 PB5/ADDR13 (out), 20 PB4/ADDR12 (out), 21 PB3/ADDR11 (out), 22 PB2/ADDR10 (out), 23 PB1/ADDR9 (out), 24 PB0/ADDR8 (out), 25 PH0/PW1 (io), 26 PH1/PW2 (io), 27 PH2/PW3 (io), 28 PH3/PW4 (io), 29 ~{XIRQ}/VPPE (in), 30 PG7/R/~{W} (io), 31 ~{IRQ} (in), 32 AVDD (power), 33 VSS (power), 34 PE3/AN3 (in), 35 PE2/AN2 (in), 36 PE1/AN1 (in), 37 PE0/AN0 (in), 38 VRL (in), 39 VRH (in), 40 AVSS (power), 41 VSS (power), 42 PF7/ADDR7 (out), 43 PF6/ADDR6 (out), 44 PF5/ADDR5 (out), 45 PF4/ADDR4 (out), 46 PF3/ADDR3 (out), 47 PF2/ADDR2 (out), 48 PF1/ADDR1 (out), 49 PF0/ADDR0 (out), 50 PC0/DATA0 (io), 51 PC1/DATA1 (io), 52 PC2/DATA2 (io), 53 PC3/DATA3 (io), 54 PC4/DATA4 (io), 55 PC5/DATA5 (io), 56 PC6/DATA6 (io), 57 PC7/DATA7 (io), 58 E (out), 59 EXTAL, 60 XTAL, 61 ~{RESET} (io), 62 MODB/VSTBY (in), 63 MODA/~{LIR} (io), 64 PD0/RXD (io)